# Altium integrated library Renesas Microcontroller H8S.IntLib: 670 symbols (part 29 of 70)
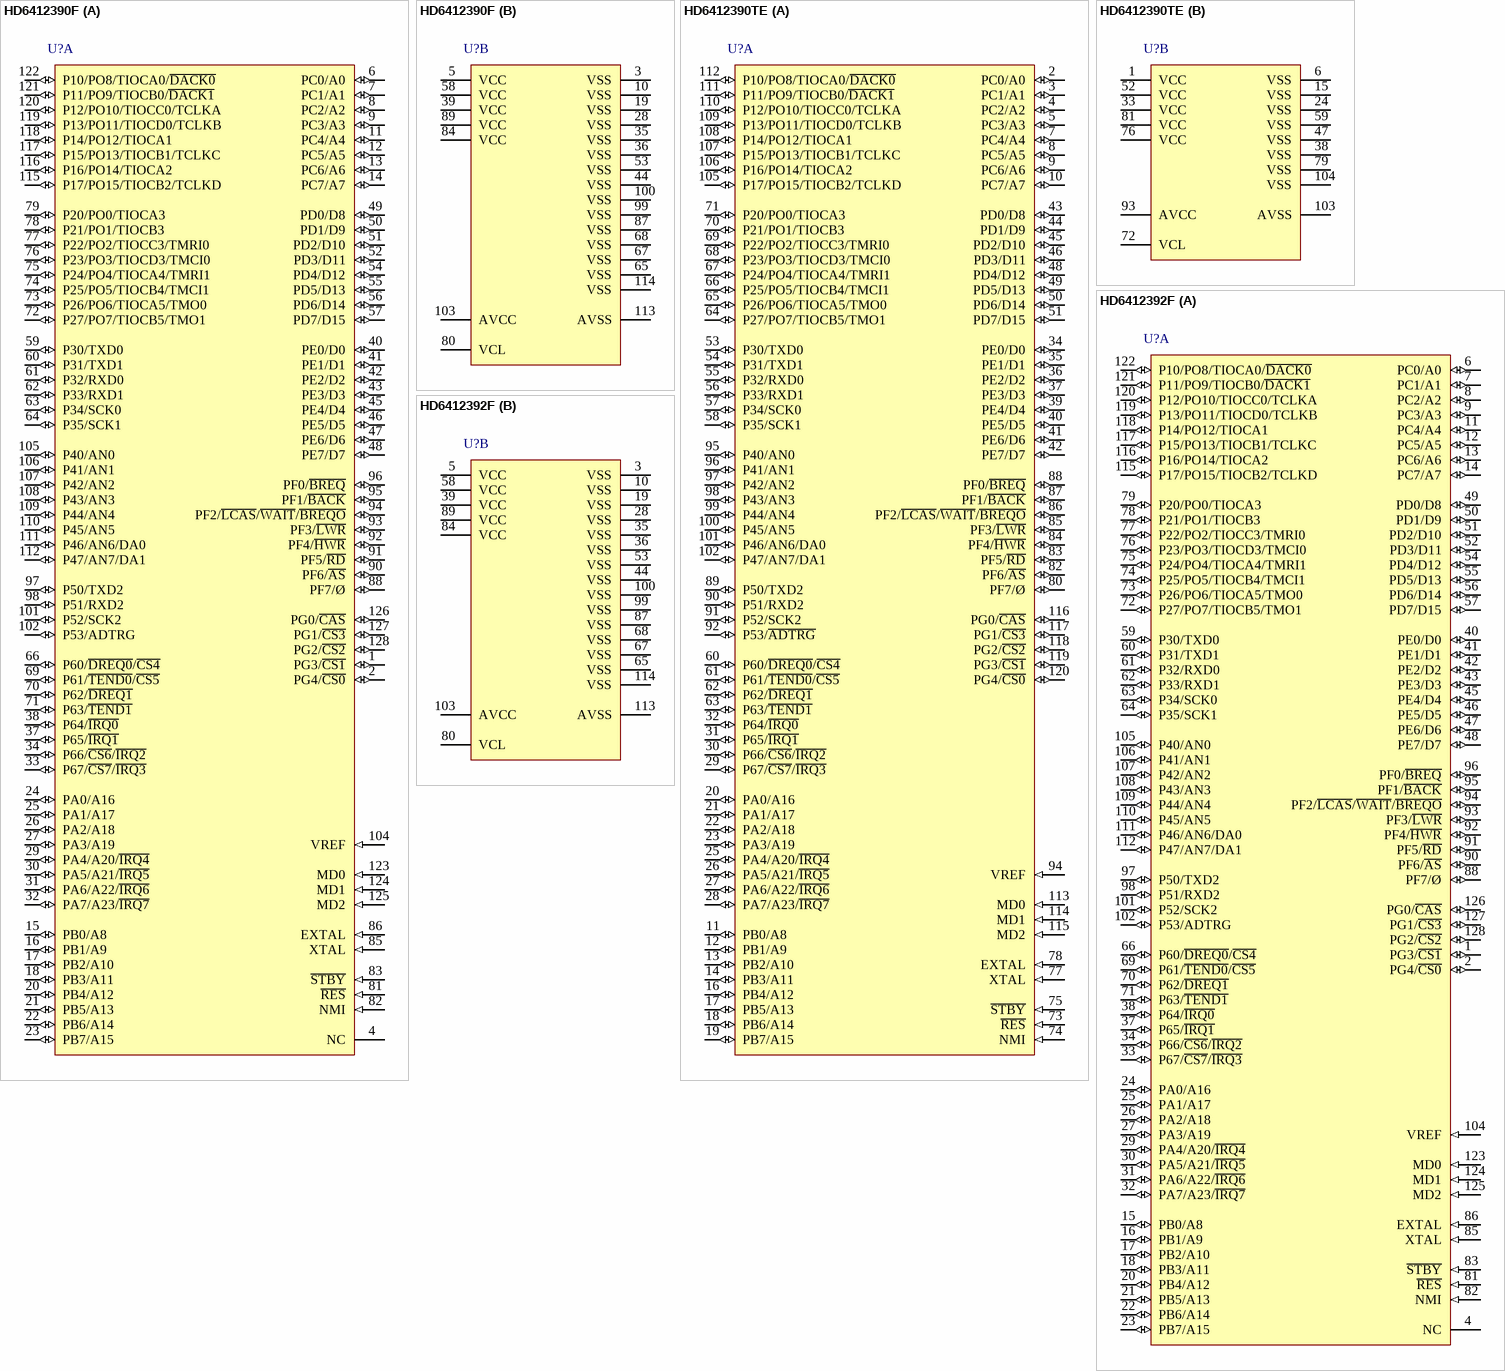
[diagram p259: symbols HD6412390F to HD6412392F]

## HD6412390F
designator U?
ROMless H8S/2300 Series, 2398 Group MCU, 4K RAM, FP-128B Pkg; Published: 28-Aug-2009; DatasheetVersion: Rev.6.00, Oct-2004; PackageVersion: Sep-2005; PackageReference: PRQP0128KB-A; Publisher: Altium Limited; PackageDescription: 128-Pin Plastic Quad Flat Pack, 20 x 14 x 2.7 mm Body, 0.5 mm Pitch; Code_JEITA: P-QFP128-14x20-0.50; Code_IPC: SQFP50P1600X2200-128; ComponentLink1Description: Manufacturer Link; ComponentLink1URL: http://sg.renesas.com/fmwk.jsp?cnt=h8s_family_landing.jsp&fp=/products/mpumcu/h8s_family/; ComponentLink2Description: Datasheet; ComponentLink2URL: http://documentation.renesas.com/eng/products/mpumcu/rej09b0138_h8s2357.pdf; ComponentLink3Description: Packaging Specification; ComponentLink3URL: http://sg.renesas.com/media/products/common_info/package/pdf/ic/code/prqp0128kb_a.pdf
footprint PRQP0128KB-A_N (Shrink QFP, 128-Leads, Body 20x14 mm, Pitch 0.5mm, IPC Medium Density)
footprint PRQP0128KB-A_L (Shrink QFP, 128-Leads, Body 20x14 mm, Pitch 0.5mm, IPC High Density)
footprint PRQP0128KB-A_M (Shrink QFP, 128-Leads, Body 20x14 mm, Pitch 0.5mm, IPC Low Density)
part A pins: 1 PG3/~{CS1} (io), 2 PG4/~{CS0} (io), 4 NC, 6 PC0/A0 (io), 7 PC1/A1 (io), 8 PC2/A2 (io), 9 PC3/A3 (io), 11 PC4/A4 (io), 12 PC5/A5 (io), 13 PC6/A6 (io), 14 PC7/A7 (io), 15 PB0/A8 (io), 16 PB1/A9 (io), 17 PB2/A10 (io), 18 PB3/A11 (io), 20 PB4/A12 (io), 21 PB5/A13 (io), 22 PB6/A14 (io), 23 PB7/A15 (io), 24 PA0/A16 (io), 25 PA1/A17 (io), 26 PA2/A18 (io), 27 PA3/A19 (io), 29 PA4/A20/~{IRQ4} (io), 30 PA5/A21/~{IRQ5} (io), 31 PA6/A22/~{IRQ6} (io), 32 PA7/A23/~{IRQ7} (io), 33 P67/~{CS7}/~{IRQ3} (io), 34 P66/~{CS6}/~{IRQ2} (io), 37 P65/~{IRQ1} (io), 38 P64/~{IRQ0} (io), 40 PE0/D0 (io), 41 PE1/D1 (io), 42 PE2/D2 (io), 43 PE3/D3 (io), 45 PE4/D4 (io), 46 PE5/D5 (io), 47 PE6/D6 (io), 48 PE7/D7 (io), 49 PD0/D8 (io), 50 PD1/D9 (io), 51 PD2/D10 (io), 52 PD3/D11 (io), 54 PD4/D12 (io), 55 PD5/D13 (io), 56 PD6/D14 (io), 57 PD7/D15 (io), 59 P30/TXD0 (io), 60 P31/TXD1 (io), 61 P32/RXD0 (io), 62 P33/RXD1 (io), 63 P34/SCK0 (io), 64 P35/SCK1 (io), 66 P60/~{DREQ0}/~{CS4} (io), 69 P61/~{TEND0}/~{CS5} (io), 70 P62/~{DREQ1} (io), 71 P63/~{TEND1} (io), 72 P27/PO7/TIOCB5/TMO1 (io), 73 P26/PO6/TIOCA5/TMO0 (io), 74 P25/PO5/TIOCB4/TMCI1 (io), 75 P24/PO4/TIOCA4/TMRI1 (io), 76 P23/PO3/TIOCD3/TMCI0 (io), 77 P22/PO2/TIOCC3/TMRI0 (io), 78 P21/PO1/TIOCB3 (io), 79 P20/PO0/TIOCA3 (io), 81 ~{RES} (in), 82 NMI (in), 83 ~{STBY} (in), 85 XTAL (in), 86 EXTAL (in), 88 PF7/Ø (io), 90 PF6/~{AS} (io), 91 PF5/~{RD} (io), 92 PF4/~{HWR} (io), 93 PF3/~{LWR} (io), 94 PF2/~{LCAS}/~{WAIT}/~{BREQO} (io), 95 PF1/~{BACK} (io), 96 PF0/~{BREQ} (io), 97 P50/TXD2 (io), 98 P51/RXD2 (io), 101 P52/SCK2 (io), 102 P53/ADTRG (io), 104 VREF (in), 105 P40/AN0 (io), 106 P41/AN1 (io), 107 P42/AN2 (io), 108 P43/AN3 (io), 109 P44/AN4 (io), 110 P45/AN5 (io), 111 P46/AN6/DA0 (io), 112 P47/AN7/DA1 (io), 115 P17/PO15/TIOCB2/TCLKD (io), 116 P16/PO14/TIOCA2 (io), 117 P15/PO13/TIOCB1/TCLKC (io), 118 P14/PO12/TIOCA1 (io), 119 P13/PO11/TIOCD0/TCLKB (io), 120 P12/PO10/TIOCC0/TCLKA (io), 121 P11/PO9/TIOCB0/~{DACK1} (io), 122 P10/PO8/TIOCA0/~{DACK0} (io), 123 MD0 (in), 124 MD1 (in), 125 MD2 (in), 126 PG0/~{CAS} (io), 127 PG1/~{CS3} (io), 128 PG2/~{CS2} (io)
part B pins: 3 VSS (power), 5 VCC (power), 10 VSS (power), 19 VSS (power), 28 VSS (power), 35 VSS (power), 36 VSS (power), 39 VCC (power), 44 VSS (power), 53 VSS (power), 58 VCC (power), 65 VSS (power), 67 VSS (power), 68 VSS (power), 80 VCL, 84 VCC (power), 87 VSS (power), 89 VCC (power), 99 VSS (power), 100 VSS (power), 103 AVCC (power), 113 AVSS (power), 114 VSS (power)

## HD6412390TE
designator U?
ROMless H8S/2300 Series, 2398 Group MCU, 4K RAM, TFP-120 Pkg; Published: 28-Aug-2009; DatasheetVersion: Rev.6.00, Oct-2004; PackageVersion: Sep-2005; PackageReference: PTQP0120LA-A; Publisher: Altium Limited; PackageDescription: 120-Pin Plastic Thin QFP, 14 x 14 x 1.0 mm Body, 0.4 mm Pitch; Code_JEITA: P-TQFP120-14x14-0.40; ComponentLink1Description: Manufacturer Link; ComponentLink1URL: http://sg.renesas.com/fmwk.jsp?cnt=h8s_family_landing.jsp&fp=/products/mpumcu/h8s_family/; ComponentLink2Description: Datasheet; ComponentLink2URL: http://documentation.renesas.com/eng/products/mpumcu/rej09b0138_h8s2357.pdf; ComponentLink3Description: Packaging Specification; ComponentLink3URL: http://sg.renesas.com/media/products/common_info/package/pdf/ic/code/ptqp0120la_a.pdf
footprint PTQP0120LA-A_N (Thin QFP, 120-Leads, Body 14x14mm, Pitch 0.4mm, IPC Medium Density)
footprint PTQP0120LA-A_L (Thin QFP, 120-Leads, Body 14x14mm, Pitch 0.4mm, IPC High Density)
footprint PTQP0120LA-A_M (Thin QFP, 120-Leads, Body 14x14mm, Pitch 0.4mm, IPC Low Density)
part A pins: 2 PC0/A0 (io), 3 PC1/A1 (io), 4 PC2/A2 (io), 5 PC3/A3 (io), 7 PC4/A4 (io), 8 PC5/A5 (io), 9 PC6/A6 (io), 10 PC7/A7 (io), 11 PB0/A8 (io), 12 PB1/A9 (io), 13 PB2/A10 (io), 14 PB3/A11 (io), 16 PB4/A12 (io), 17 PB5/A13 (io), 18 PB6/A14 (io), 19 PB7/A15 (io), 20 PA0/A16 (io), 21 PA1/A17 (io), 22 PA2/A18 (io), 23 PA3/A19 (io), 25 PA4/A20/~{IRQ4} (io), 26 PA5/A21/~{IRQ5} (io), 27 PA6/A22/~{IRQ6} (io), 28 PA7/A23/~{IRQ7} (io), 29 P67/~{CS7}/~{IRQ3} (io), 30 P66/~{CS6}/~{IRQ2} (io), 31 P65/~{IRQ1} (io), 32 P64/~{IRQ0} (io), 34 PE0/D0 (io), 35 PE1/D1 (io), 36 PE2/D2 (io), 37 PE3/D3 (io), 39 PE4/D4 (io), 40 PE5/D5 (io), 41 PE6/D6 (io), 42 PE7/D7 (io), 43 PD0/D8 (io), 44 PD1/D9 (io), 45 PD2/D10 (io), 46 PD3/D11 (io), 48 PD4/D12 (io), 49 PD5/D13 (io), 50 PD6/D14 (io), 51 PD7/D15 (io), 53 P30/TXD0 (io), 54 P31/TXD1 (io), 55 P32/RXD0 (io), 56 P33/RXD1 (io), 57 P34/SCK0 (io), 58 P35/SCK1 (io), 60 P60/~{DREQ0}/~{CS4} (io), 61 P61/~{TEND0}/~{CS5} (io), 62 P62/~{DREQ1} (io), 63 P63/~{TEND1} (io), 64 P27/PO7/TIOCB5/TMO1 (io), 65 P26/PO6/TIOCA5/TMO0 (io), 66 P25/PO5/TIOCB4/TMCI1 (io), 67 P24/PO4/TIOCA4/TMRI1 (io), 68 P23/PO3/TIOCD3/TMCI0 (io), 69 P22/PO2/TIOCC3/TMRI0 (io), 70 P21/PO1/TIOCB3 (io), 71 P20/PO0/TIOCA3 (io), 73 ~{RES} (in), 74 NMI (in), 75 ~{STBY} (in), 77 XTAL (in), 78 EXTAL (in), 80 PF7/Ø (io), 82 PF6/~{AS} (io), 83 PF5/~{RD} (io), 84 PF4/~{HWR} (io), 85 PF3/~{LWR} (io), 86 PF2/~{LCAS}/~{WAIT}/~{BREQO} (io), 87 PF1/~{BACK} (io), 88 PF0/~{BREQ} (io), 89 P50/TXD2 (io), 90 P51/RXD2 (io), 91 P52/SCK2 (io), 92 P53/~{ADTRG} (io), 94 VREF (in), 95 P40/AN0 (io), 96 P41/AN1 (io), 97 P42/AN2 (io), 98 P43/AN3 (io), 99 P44/AN4 (io), 100 P45/AN5 (io), 101 P46/AN6/DA0 (io), 102 P47/AN7/DA1 (io), 105 P17/PO15/TIOCB2/TCLKD (io), 106 P16/PO14/TIOCA2 (io), 107 P15/PO13/TIOCB1/TCLKC (io), 108 P14/PO12/TIOCA1 (io), 109 P13/PO11/TIOCD0/TCLKB (io), 110 P12/PO10/TIOCC0/TCLKA (io), 111 P11/PO9/TIOCB0/~{DACK1} (io), 112 P10/PO8/TIOCA0/~{DACK0} (io), 113 MD0 (in), 114 MD1 (in), 115 MD2 (in), 116 PG0/~{CAS} (io), 117 PG1/~{CS3} (io), 118 PG2/~{CS2} (io), 119 PG3/~{CS1} (io), 120 PG4/~{CS0} (io)
part B pins: 1 VCC (power), 6 VSS (power), 15 VSS (power), 24 VSS (power), 33 VCC (power), 38 VSS (power), 47 VSS (power), 52 VCC (power), 59 VSS (power), 72 VCL, 76 VCC (power), 79 VSS (power), 81 VCC (power), 93 AVCC (power), 103 AVSS (power), 104 VSS (power)

## HD6412392F
designator U?
ROMless H8S/2300 Series, 2398 Group MCU, 8K RAM, FP-128B Pkg; Published: 28-Aug-2009; DatasheetVersion: Rev.6.00, Oct-2004; PackageVersion: Sep-2005; PackageReference: PRQP0128KB-A; Publisher: Altium Limited; PackageDescription: 128-Pin Plastic Quad Flat Pack, 20 x 14 x 2.7 mm Body, 0.5 mm Pitch; Code_JEITA: P-QFP128-14x20-0.50; Code_IPC: SQFP50P1600X2200-128; ComponentLink1Description: Manufacturer Link; ComponentLink1URL: http://sg.renesas.com/fmwk.jsp?cnt=h8s_family_landing.jsp&fp=/products/mpumcu/h8s_family/; ComponentLink2Description: Datasheet; ComponentLink2URL: http://documentation.renesas.com/eng/products/mpumcu/rej09b0138_h8s2357.pdf; ComponentLink3Description: Packaging Specification; ComponentLink3URL: http://sg.renesas.com/media/products/common_info/package/pdf/ic/code/prqp0128kb_a.pdf
footprint PRQP0128KB-A_N (Shrink QFP, 128-Leads, Body 20x14 mm, Pitch 0.5mm, IPC Medium Density)
footprint PRQP0128KB-A_L (Shrink QFP, 128-Leads, Body 20x14 mm, Pitch 0.5mm, IPC High Density)
footprint PRQP0128KB-A_M (Shrink QFP, 128-Leads, Body 20x14 mm, Pitch 0.5mm, IPC Low Density)
part A pins: 1 PG3/~{CS1} (io), 2 PG4/~{CS0} (io), 4 NC, 6 PC0/A0 (io), 7 PC1/A1 (io), 8 PC2/A2 (io), 9 PC3/A3 (io), 11 PC4/A4 (io), 12 PC5/A5 (io), 13 PC6/A6 (io), 14 PC7/A7 (io), 15 PB0/A8 (io), 16 PB1/A9 (io), 17 PB2/A10 (io), 18 PB3/A11 (io), 20 PB4/A12 (io), 21 PB5/A13 (io), 22 PB6/A14 (io), 23 PB7/A15 (io), 24 PA0/A16 (io), 25 PA1/A17 (io), 26 PA2/A18 (io), 27 PA3/A19 (io), 29 PA4/A20/~{IRQ4} (io), 30 PA5/A21/~{IRQ5} (io), 31 PA6/A22/~{IRQ6} (io), 32 PA7/A23/~{IRQ7} (io), 33 P67/~{CS7}/~{IRQ3} (io), 34 P66/~{CS6}/~{IRQ2} (io), 37 P65/~{IRQ1} (io), 38 P64/~{IRQ0} (io), 40 PE0/D0 (io), 41 PE1/D1 (io), 42 PE2/D2 (io), 43 PE3/D3 (io), 45 PE4/D4 (io), 46 PE5/D5 (io), 47 PE6/D6 (io), 48 PE7/D7 (io), 49 PD0/D8 (io), 50 PD1/D9 (io), 51 PD2/D10 (io), 52 PD3/D11 (io), 54 PD4/D12 (io), 55 PD5/D13 (io), 56 PD6/D14 (io), 57 PD7/D15 (io), 59 P30/TXD0 (io), 60 P31/TXD1 (io), 61 P32/RXD0 (io), 62 P33/RXD1 (io), 63 P34/SCK0 (io), 64 P35/SCK1 (io), 66 P60/~{DREQ0}/~{CS4} (io), 69 P61/~{TEND0}/~{CS5} (io), 70 P62/~{DREQ1} (io), 71 P63/~{TEND1} (io), 72 P27/PO7/TIOCB5/TMO1 (io), 73 P26/PO6/TIOCA5/TMO0 (io), 74 P25/PO5/TIOCB4/TMCI1 (io), 75 P24/PO4/TIOCA4/TMRI1 (io), 76 P23/PO3/TIOCD3/TMCI0 (io), 77 P22/PO2/TIOCC3/TMRI0 (io), 78 P21/PO1/TIOCB3 (io), 79 P20/PO0/TIOCA3 (io), 81 ~{RES} (in), 82 NMI (in), 83 ~{STBY} (in), 85 XTAL (in), 86 EXTAL (in), 88 PF7/Ø (io), 90 PF6/~{AS} (io), 91 PF5/~{RD} (io), 92 PF4/~{HWR} (io), 93 PF3/~{LWR} (io), 94 PF2/~{LCAS}/~{WAIT}/~{BREQO} (io), 95 PF1/~{BACK} (io), 96 PF0/~{BREQ} (io), 97 P50/TXD2 (io), 98 P51/RXD2 (io), 101 P52/SCK2 (io), 102 P53/ADTRG (io), 104 VREF (in), 105 P40/AN0 (io), 106 P41/AN1 (io), 107 P42/AN2 (io), 108 P43/AN3 (io), 109 P44/AN4 (io), 110 P45/AN5 (io), 111 P46/AN6/DA0 (io), 112 P47/AN7/DA1 (io), 115 P17/PO15/TIOCB2/TCLKD (io), 116 P16/PO14/TIOCA2 (io), 117 P15/PO13/TIOCB1/TCLKC (io), 118 P14/PO12/TIOCA1 (io), 119 P13/PO11/TIOCD0/TCLKB (io), 120 P12/PO10/TIOCC0/TCLKA (io), 121 P11/PO9/TIOCB0/~{DACK1} (io), 122 P10/PO8/TIOCA0/~{DACK0} (io), 123 MD0 (in), 124 MD1 (in), 125 MD2 (in), 126 PG0/~{CAS} (io), 127 PG1/~{CS3} (io), 128 PG2/~{CS2} (io)
part B pins: 3 VSS (power), 5 VCC (power), 10 VSS (power), 19 VSS (power), 28 VSS (power), 35 VSS (power), 36 VSS (power), 39 VCC (power), 44 VSS (power), 53 VSS (power), 58 VCC (power), 65 VSS (power), 67 VSS (power), 68 VSS (power), 80 VCL, 84 VCC (power), 87 VSS (power), 89 VCC (power), 99 VSS (power), 100 VSS (power), 103 AVCC (power), 113 AVSS (power), 114 VSS (power)

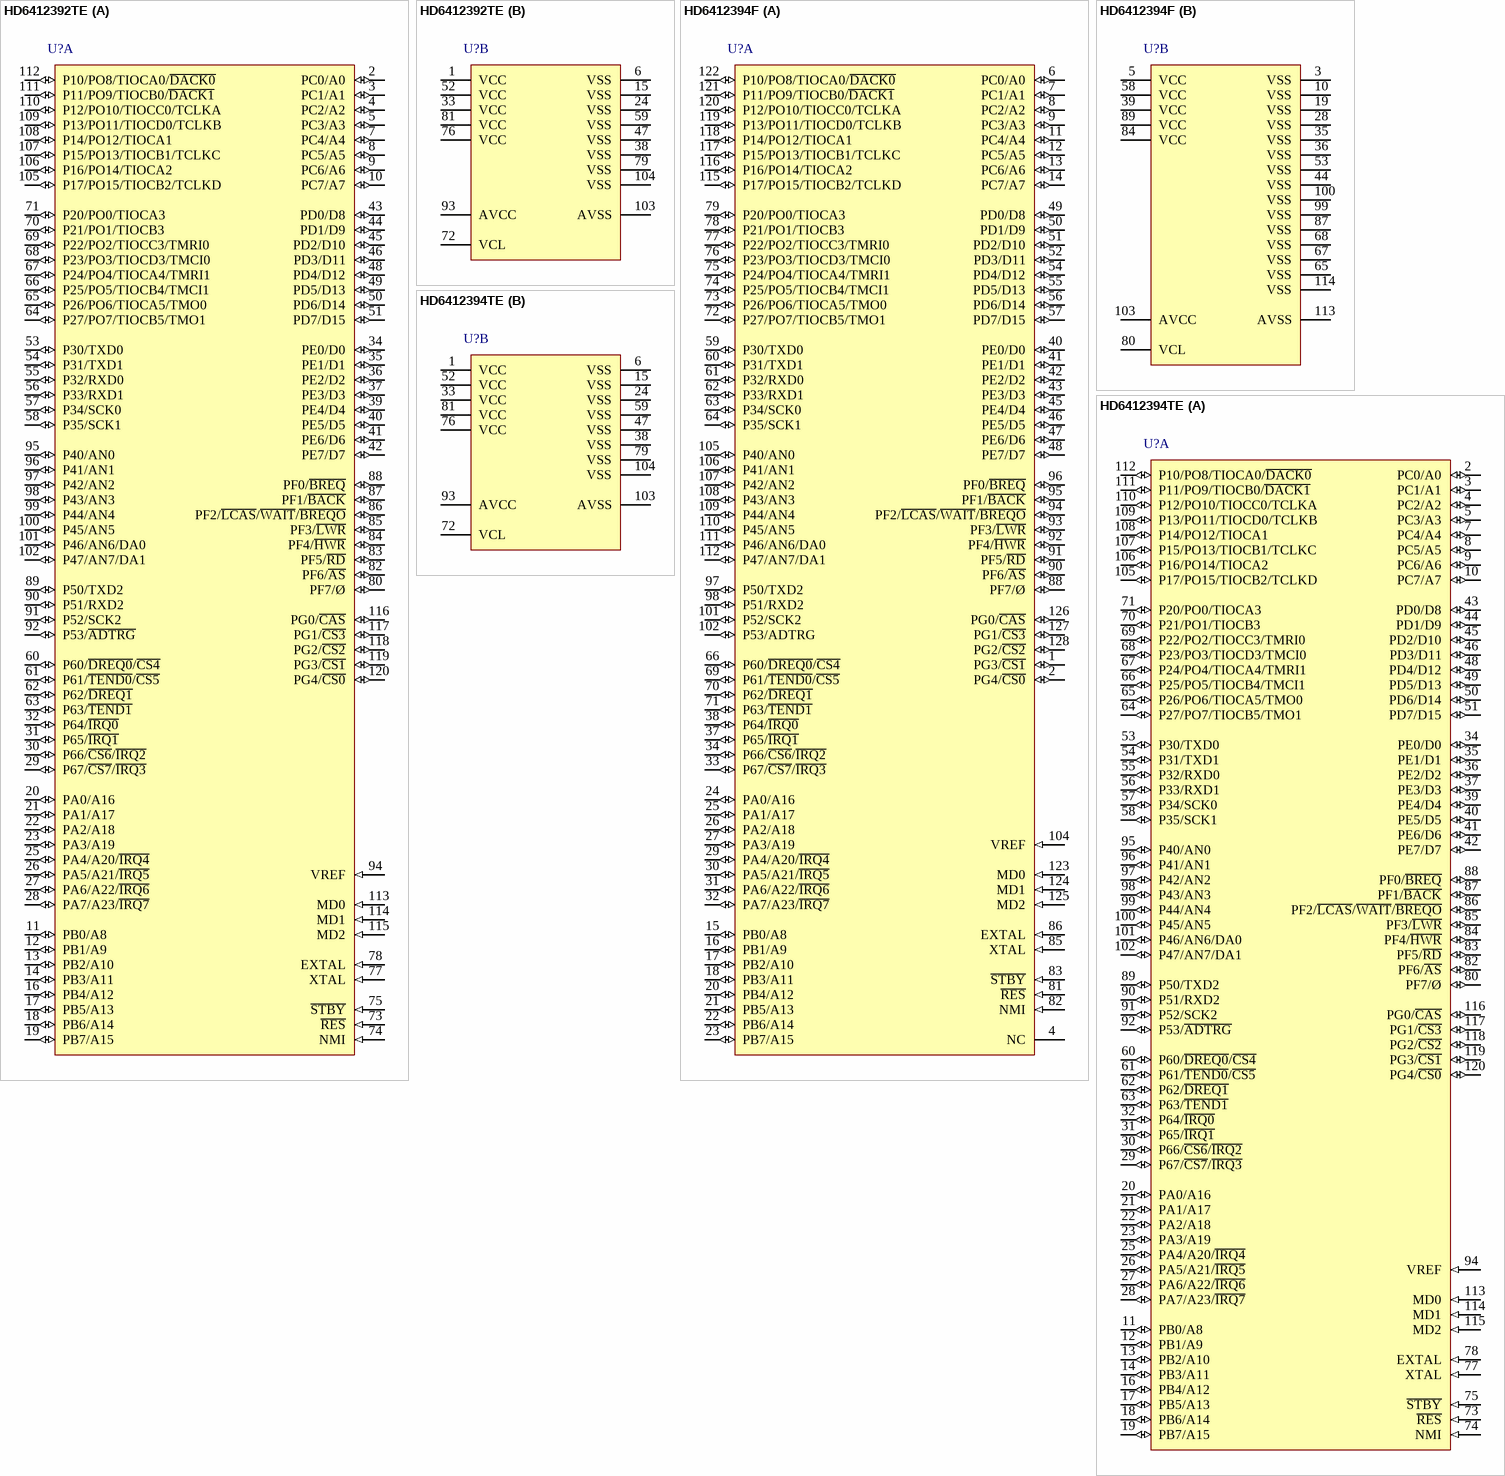
[diagram p100: symbols HD6412392TE to HD6412394TE]

## HD6412392TE
designator U?
ROMless H8S/2300 Series, 2398 Group MCU, 8K RAM, TFP-120 Pkg; Published: 28-Aug-2009; DatasheetVersion: Rev.6.00, Oct-2004; PackageVersion: Sep-2005; PackageReference: PTQP0120LA-A; Publisher: Altium Limited; PackageDescription: 120-Pin Plastic Thin QFP, 14 x 14 x 1.0 mm Body, 0.4 mm Pitch; Code_JEITA: P-TQFP120-14x14-0.40; ComponentLink1Description: Manufacturer Link; ComponentLink1URL: http://sg.renesas.com/fmwk.jsp?cnt=h8s_family_landing.jsp&fp=/products/mpumcu/h8s_family/; ComponentLink2Description: Datasheet; ComponentLink2URL: http://documentation.renesas.com/eng/products/mpumcu/rej09b0138_h8s2357.pdf; ComponentLink3Description: Packaging Specification; ComponentLink3URL: http://sg.renesas.com/media/products/common_info/package/pdf/ic/code/ptqp0120la_a.pdf
footprint PTQP0120LA-A_N (Thin QFP, 120-Leads, Body 14x14mm, Pitch 0.4mm, IPC Medium Density)
footprint PTQP0120LA-A_L (Thin QFP, 120-Leads, Body 14x14mm, Pitch 0.4mm, IPC High Density)
footprint PTQP0120LA-A_M (Thin QFP, 120-Leads, Body 14x14mm, Pitch 0.4mm, IPC Low Density)
part A pins: 2 PC0/A0 (io), 3 PC1/A1 (io), 4 PC2/A2 (io), 5 PC3/A3 (io), 7 PC4/A4 (io), 8 PC5/A5 (io), 9 PC6/A6 (io), 10 PC7/A7 (io), 11 PB0/A8 (io), 12 PB1/A9 (io), 13 PB2/A10 (io), 14 PB3/A11 (io), 16 PB4/A12 (io), 17 PB5/A13 (io), 18 PB6/A14 (io), 19 PB7/A15 (io), 20 PA0/A16 (io), 21 PA1/A17 (io), 22 PA2/A18 (io), 23 PA3/A19 (io), 25 PA4/A20/~{IRQ4} (io), 26 PA5/A21/~{IRQ5} (io), 27 PA6/A22/~{IRQ6} (io), 28 PA7/A23/~{IRQ7} (io), 29 P67/~{CS7}/~{IRQ3} (io), 30 P66/~{CS6}/~{IRQ2} (io), 31 P65/~{IRQ1} (io), 32 P64/~{IRQ0} (io), 34 PE0/D0 (io), 35 PE1/D1 (io), 36 PE2/D2 (io), 37 PE3/D3 (io), 39 PE4/D4 (io), 40 PE5/D5 (io), 41 PE6/D6 (io), 42 PE7/D7 (io), 43 PD0/D8 (io), 44 PD1/D9 (io), 45 PD2/D10 (io), 46 PD3/D11 (io), 48 PD4/D12 (io), 49 PD5/D13 (io), 50 PD6/D14 (io), 51 PD7/D15 (io), 53 P30/TXD0 (io), 54 P31/TXD1 (io), 55 P32/RXD0 (io), 56 P33/RXD1 (io), 57 P34/SCK0 (io), 58 P35/SCK1 (io), 60 P60/~{DREQ0}/~{CS4} (io), 61 P61/~{TEND0}/~{CS5} (io), 62 P62/~{DREQ1} (io), 63 P63/~{TEND1} (io), 64 P27/PO7/TIOCB5/TMO1 (io), 65 P26/PO6/TIOCA5/TMO0 (io), 66 P25/PO5/TIOCB4/TMCI1 (io), 67 P24/PO4/TIOCA4/TMRI1 (io), 68 P23/PO3/TIOCD3/TMCI0 (io), 69 P22/PO2/TIOCC3/TMRI0 (io), 70 P21/PO1/TIOCB3 (io), 71 P20/PO0/TIOCA3 (io), 73 ~{RES} (in), 74 NMI (in), 75 ~{STBY} (in), 77 XTAL (in), 78 EXTAL (in), 80 PF7/Ø (io), 82 PF6/~{AS} (io), 83 PF5/~{RD} (io), 84 PF4/~{HWR} (io), 85 PF3/~{LWR} (io), 86 PF2/~{LCAS}/~{WAIT}/~{BREQO} (io), 87 PF1/~{BACK} (io), 88 PF0/~{BREQ} (io), 89 P50/TXD2 (io), 90 P51/RXD2 (io), 91 P52/SCK2 (io), 92 P53/~{ADTRG} (io), 94 VREF (in), 95 P40/AN0 (io), 96 P41/AN1 (io), 97 P42/AN2 (io), 98 P43/AN3 (io), 99 P44/AN4 (io), 100 P45/AN5 (io), 101 P46/AN6/DA0 (io), 102 P47/AN7/DA1 (io), 105 P17/PO15/TIOCB2/TCLKD (io), 106 P16/PO14/TIOCA2 (io), 107 P15/PO13/TIOCB1/TCLKC (io), 108 P14/PO12/TIOCA1 (io), 109 P13/PO11/TIOCD0/TCLKB (io), 110 P12/PO10/TIOCC0/TCLKA (io), 111 P11/PO9/TIOCB0/~{DACK1} (io), 112 P10/PO8/TIOCA0/~{DACK0} (io), 113 MD0 (in), 114 MD1 (in), 115 MD2 (in), 116 PG0/~{CAS} (io), 117 PG1/~{CS3} (io), 118 PG2/~{CS2} (io), 119 PG3/~{CS1} (io), 120 PG4/~{CS0} (io)
part B pins: 1 VCC (power), 6 VSS (power), 15 VSS (power), 24 VSS (power), 33 VCC (power), 38 VSS (power), 47 VSS (power), 52 VCC (power), 59 VSS (power), 72 VCL, 76 VCC (power), 79 VSS (power), 81 VCC (power), 93 AVCC (power), 103 AVSS (power), 104 VSS (power)

## HD6412394F
designator U?
ROMless H8S/2300 Series, 2398 Group MCU, 32K RAM, FP-128B Pkg; Published: 28-Aug-2009; DatasheetVersion: Rev.6.00, Oct-2004; PackageVersion: Sep-2005; PackageReference: PRQP0128KB-A; Publisher: Altium Limited; PackageDescription: 128-Pin Plastic Quad Flat Pack, 20 x 14 x 2.7 mm Body, 0.5 mm Pitch; Code_JEITA: P-QFP128-14x20-0.50; Code_IPC: SQFP50P1600X2200-128; ComponentLink1Description: Manufacturer Link; ComponentLink1URL: http://sg.renesas.com/fmwk.jsp?cnt=h8s_family_landing.jsp&fp=/products/mpumcu/h8s_family/; ComponentLink2Description: Datasheet; ComponentLink2URL: http://documentation.renesas.com/eng/products/mpumcu/rej09b0138_h8s2357.pdf; ComponentLink3Description: Packaging Specification; ComponentLink3URL: http://sg.renesas.com/media/products/common_info/package/pdf/ic/code/prqp0128kb_a.pdf
footprint PRQP0128KB-A_N (Shrink QFP, 128-Leads, Body 20x14 mm, Pitch 0.5mm, IPC Medium Density)
footprint PRQP0128KB-A_L (Shrink QFP, 128-Leads, Body 20x14 mm, Pitch 0.5mm, IPC High Density)
footprint PRQP0128KB-A_M (Shrink QFP, 128-Leads, Body 20x14 mm, Pitch 0.5mm, IPC Low Density)
part A pins: 1 PG3/~{CS1} (io), 2 PG4/~{CS0} (io), 4 NC, 6 PC0/A0 (io), 7 PC1/A1 (io), 8 PC2/A2 (io), 9 PC3/A3 (io), 11 PC4/A4 (io), 12 PC5/A5 (io), 13 PC6/A6 (io), 14 PC7/A7 (io), 15 PB0/A8 (io), 16 PB1/A9 (io), 17 PB2/A10 (io), 18 PB3/A11 (io), 20 PB4/A12 (io), 21 PB5/A13 (io), 22 PB6/A14 (io), 23 PB7/A15 (io), 24 PA0/A16 (io), 25 PA1/A17 (io), 26 PA2/A18 (io), 27 PA3/A19 (io), 29 PA4/A20/~{IRQ4} (io), 30 PA5/A21/~{IRQ5} (io), 31 PA6/A22/~{IRQ6} (io), 32 PA7/A23/~{IRQ7} (io), 33 P67/~{CS7}/~{IRQ3} (io), 34 P66/~{CS6}/~{IRQ2} (io), 37 P65/~{IRQ1} (io), 38 P64/~{IRQ0} (io), 40 PE0/D0 (io), 41 PE1/D1 (io), 42 PE2/D2 (io), 43 PE3/D3 (io), 45 PE4/D4 (io), 46 PE5/D5 (io), 47 PE6/D6 (io), 48 PE7/D7 (io), 49 PD0/D8 (io), 50 PD1/D9 (io), 51 PD2/D10 (io), 52 PD3/D11 (io), 54 PD4/D12 (io), 55 PD5/D13 (io), 56 PD6/D14 (io), 57 PD7/D15 (io), 59 P30/TXD0 (io), 60 P31/TXD1 (io), 61 P32/RXD0 (io), 62 P33/RXD1 (io), 63 P34/SCK0 (io), 64 P35/SCK1 (io), 66 P60/~{DREQ0}/~{CS4} (io), 69 P61/~{TEND0}/~{CS5} (io), 70 P62/~{DREQ1} (io), 71 P63/~{TEND1} (io), 72 P27/PO7/TIOCB5/TMO1 (io), 73 P26/PO6/TIOCA5/TMO0 (io), 74 P25/PO5/TIOCB4/TMCI1 (io), 75 P24/PO4/TIOCA4/TMRI1 (io), 76 P23/PO3/TIOCD3/TMCI0 (io), 77 P22/PO2/TIOCC3/TMRI0 (io), 78 P21/PO1/TIOCB3 (io), 79 P20/PO0/TIOCA3 (io), 81 ~{RES} (in), 82 NMI (in), 83 ~{STBY} (in), 85 XTAL (in), 86 EXTAL (in), 88 PF7/Ø (io), 90 PF6/~{AS} (io), 91 PF5/~{RD} (io), 92 PF4/~{HWR} (io), 93 PF3/~{LWR} (io), 94 PF2/~{LCAS}/~{WAIT}/~{BREQO} (io), 95 PF1/~{BACK} (io), 96 PF0/~{BREQ} (io), 97 P50/TXD2 (io), 98 P51/RXD2 (io), 101 P52/SCK2 (io), 102 P53/ADTRG (io), 104 VREF (in), 105 P40/AN0 (io), 106 P41/AN1 (io), 107 P42/AN2 (io), 108 P43/AN3 (io), 109 P44/AN4 (io), 110 P45/AN5 (io), 111 P46/AN6/DA0 (io), 112 P47/AN7/DA1 (io), 115 P17/PO15/TIOCB2/TCLKD (io), 116 P16/PO14/TIOCA2 (io), 117 P15/PO13/TIOCB1/TCLKC (io), 118 P14/PO12/TIOCA1 (io), 119 P13/PO11/TIOCD0/TCLKB (io), 120 P12/PO10/TIOCC0/TCLKA (io), 121 P11/PO9/TIOCB0/~{DACK1} (io), 122 P10/PO8/TIOCA0/~{DACK0} (io), 123 MD0 (in), 124 MD1 (in), 125 MD2 (in), 126 PG0/~{CAS} (io), 127 PG1/~{CS3} (io), 128 PG2/~{CS2} (io)
part B pins: 3 VSS (power), 5 VCC (power), 10 VSS (power), 19 VSS (power), 28 VSS (power), 35 VSS (power), 36 VSS (power), 39 VCC (power), 44 VSS (power), 53 VSS (power), 58 VCC (power), 65 VSS (power), 67 VSS (power), 68 VSS (power), 80 VCL, 84 VCC (power), 87 VSS (power), 89 VCC (power), 99 VSS (power), 100 VSS (power), 103 AVCC (power), 113 AVSS (power), 114 VSS (power)

## HD6412394TE
designator U?
ROMless H8S/2300 Series, 2398 Group MCU, 32K RAM, TFP-120 Pkg; Published: 28-Aug-2009; DatasheetVersion: Rev.6.00, Oct-2004; PackageVersion: Sep-2005; PackageReference: PTQP0120LA-A; Publisher: Altium Limited; PackageDescription: 120-Pin Plastic Thin QFP, 14 x 14 x 1.0 mm Body, 0.4 mm Pitch; Code_JEITA: P-TQFP120-14x14-0.40; ComponentLink1Description: Manufacturer Link; ComponentLink1URL: http://sg.renesas.com/fmwk.jsp?cnt=h8s_family_landing.jsp&fp=/products/mpumcu/h8s_family/; ComponentLink2Description: Datasheet; ComponentLink2URL: http://documentation.renesas.com/eng/products/mpumcu/rej09b0138_h8s2357.pdf; ComponentLink3Description: Packaging Specification; ComponentLink3URL: http://sg.renesas.com/media/products/common_info/package/pdf/ic/code/ptqp0120la_a.pdf
footprint PTQP0120LA-A_N (Thin QFP, 120-Leads, Body 14x14mm, Pitch 0.4mm, IPC Medium Density)
footprint PTQP0120LA-A_L (Thin QFP, 120-Leads, Body 14x14mm, Pitch 0.4mm, IPC High Density)
footprint PTQP0120LA-A_M (Thin QFP, 120-Leads, Body 14x14mm, Pitch 0.4mm, IPC Low Density)
part A pins: 2 PC0/A0 (io), 3 PC1/A1 (io), 4 PC2/A2 (io), 5 PC3/A3 (io), 7 PC4/A4 (io), 8 PC5/A5 (io), 9 PC6/A6 (io), 10 PC7/A7 (io), 11 PB0/A8 (io), 12 PB1/A9 (io), 13 PB2/A10 (io), 14 PB3/A11 (io), 16 PB4/A12 (io), 17 PB5/A13 (io), 18 PB6/A14 (io), 19 PB7/A15 (io), 20 PA0/A16 (io), 21 PA1/A17 (io), 22 PA2/A18 (io), 23 PA3/A19 (io), 25 PA4/A20/~{IRQ4} (io), 26 PA5/A21/~{IRQ5} (io), 27 PA6/A22/~{IRQ6} (io), 28 PA7/A23/~{IRQ7} (io), 29 P67/~{CS7}/~{IRQ3} (io), 30 P66/~{CS6}/~{IRQ2} (io), 31 P65/~{IRQ1} (io), 32 P64/~{IRQ0} (io), 34 PE0/D0 (io), 35 PE1/D1 (io), 36 PE2/D2 (io), 37 PE3/D3 (io), 39 PE4/D4 (io), 40 PE5/D5 (io), 41 PE6/D6 (io), 42 PE7/D7 (io), 43 PD0/D8 (io), 44 PD1/D9 (io), 45 PD2/D10 (io), 46 PD3/D11 (io), 48 PD4/D12 (io), 49 PD5/D13 (io), 50 PD6/D14 (io), 51 PD7/D15 (io), 53 P30/TXD0 (io), 54 P31/TXD1 (io), 55 P32/RXD0 (io), 56 P33/RXD1 (io), 57 P34/SCK0 (io), 58 P35/SCK1 (io), 60 P60/~{DREQ0}/~{CS4} (io), 61 P61/~{TEND0}/~{CS5} (io), 62 P62/~{DREQ1} (io), 63 P63/~{TEND1} (io), 64 P27/PO7/TIOCB5/TMO1 (io), 65 P26/PO6/TIOCA5/TMO0 (io), 66 P25/PO5/TIOCB4/TMCI1 (io), 67 P24/PO4/TIOCA4/TMRI1 (io), 68 P23/PO3/TIOCD3/TMCI0 (io), 69 P22/PO2/TIOCC3/TMRI0 (io), 70 P21/PO1/TIOCB3 (io), 71 P20/PO0/TIOCA3 (io), 73 ~{RES} (in), 74 NMI (in), 75 ~{STBY} (in), 77 XTAL (in), 78 EXTAL (in), 80 PF7/Ø (io), 82 PF6/~{AS} (io), 83 PF5/~{RD} (io), 84 PF4/~{HWR} (io), 85 PF3/~{LWR} (io), 86 PF2/~{LCAS}/~{WAIT}/~{BREQO} (io), 87 PF1/~{BACK} (io), 88 PF0/~{BREQ} (io), 89 P50/TXD2 (io), 90 P51/RXD2 (io), 91 P52/SCK2 (io), 92 P53/~{ADTRG} (io), 94 VREF (in), 95 P40/AN0 (io), 96 P41/AN1 (io), 97 P42/AN2 (io), 98 P43/AN3 (io), 99 P44/AN4 (io), 100 P45/AN5 (io), 101 P46/AN6/DA0 (io), 102 P47/AN7/DA1 (io), 105 P17/PO15/TIOCB2/TCLKD (io), 106 P16/PO14/TIOCA2 (io), 107 P15/PO13/TIOCB1/TCLKC (io), 108 P14/PO12/TIOCA1 (io), 109 P13/PO11/TIOCD0/TCLKB (io), 110 P12/PO10/TIOCC0/TCLKA (io), 111 P11/PO9/TIOCB0/~{DACK1} (io), 112 P10/PO8/TIOCA0/~{DACK0} (io), 113 MD0 (in), 114 MD1 (in), 115 MD2 (in), 116 PG0/~{CAS} (io), 117 PG1/~{CS3} (io), 118 PG2/~{CS2} (io), 119 PG3/~{CS1} (io), 120 PG4/~{CS0} (io)
part B pins: 1 VCC (power), 6 VSS (power), 15 VSS (power), 24 VSS (power), 33 VCC (power), 38 VSS (power), 47 VSS (power), 52 VCC (power), 59 VSS (power), 72 VCL, 76 VCC (power), 79 VSS (power), 81 VCC (power), 93 AVCC (power), 103 AVSS (power), 104 VSS (power)

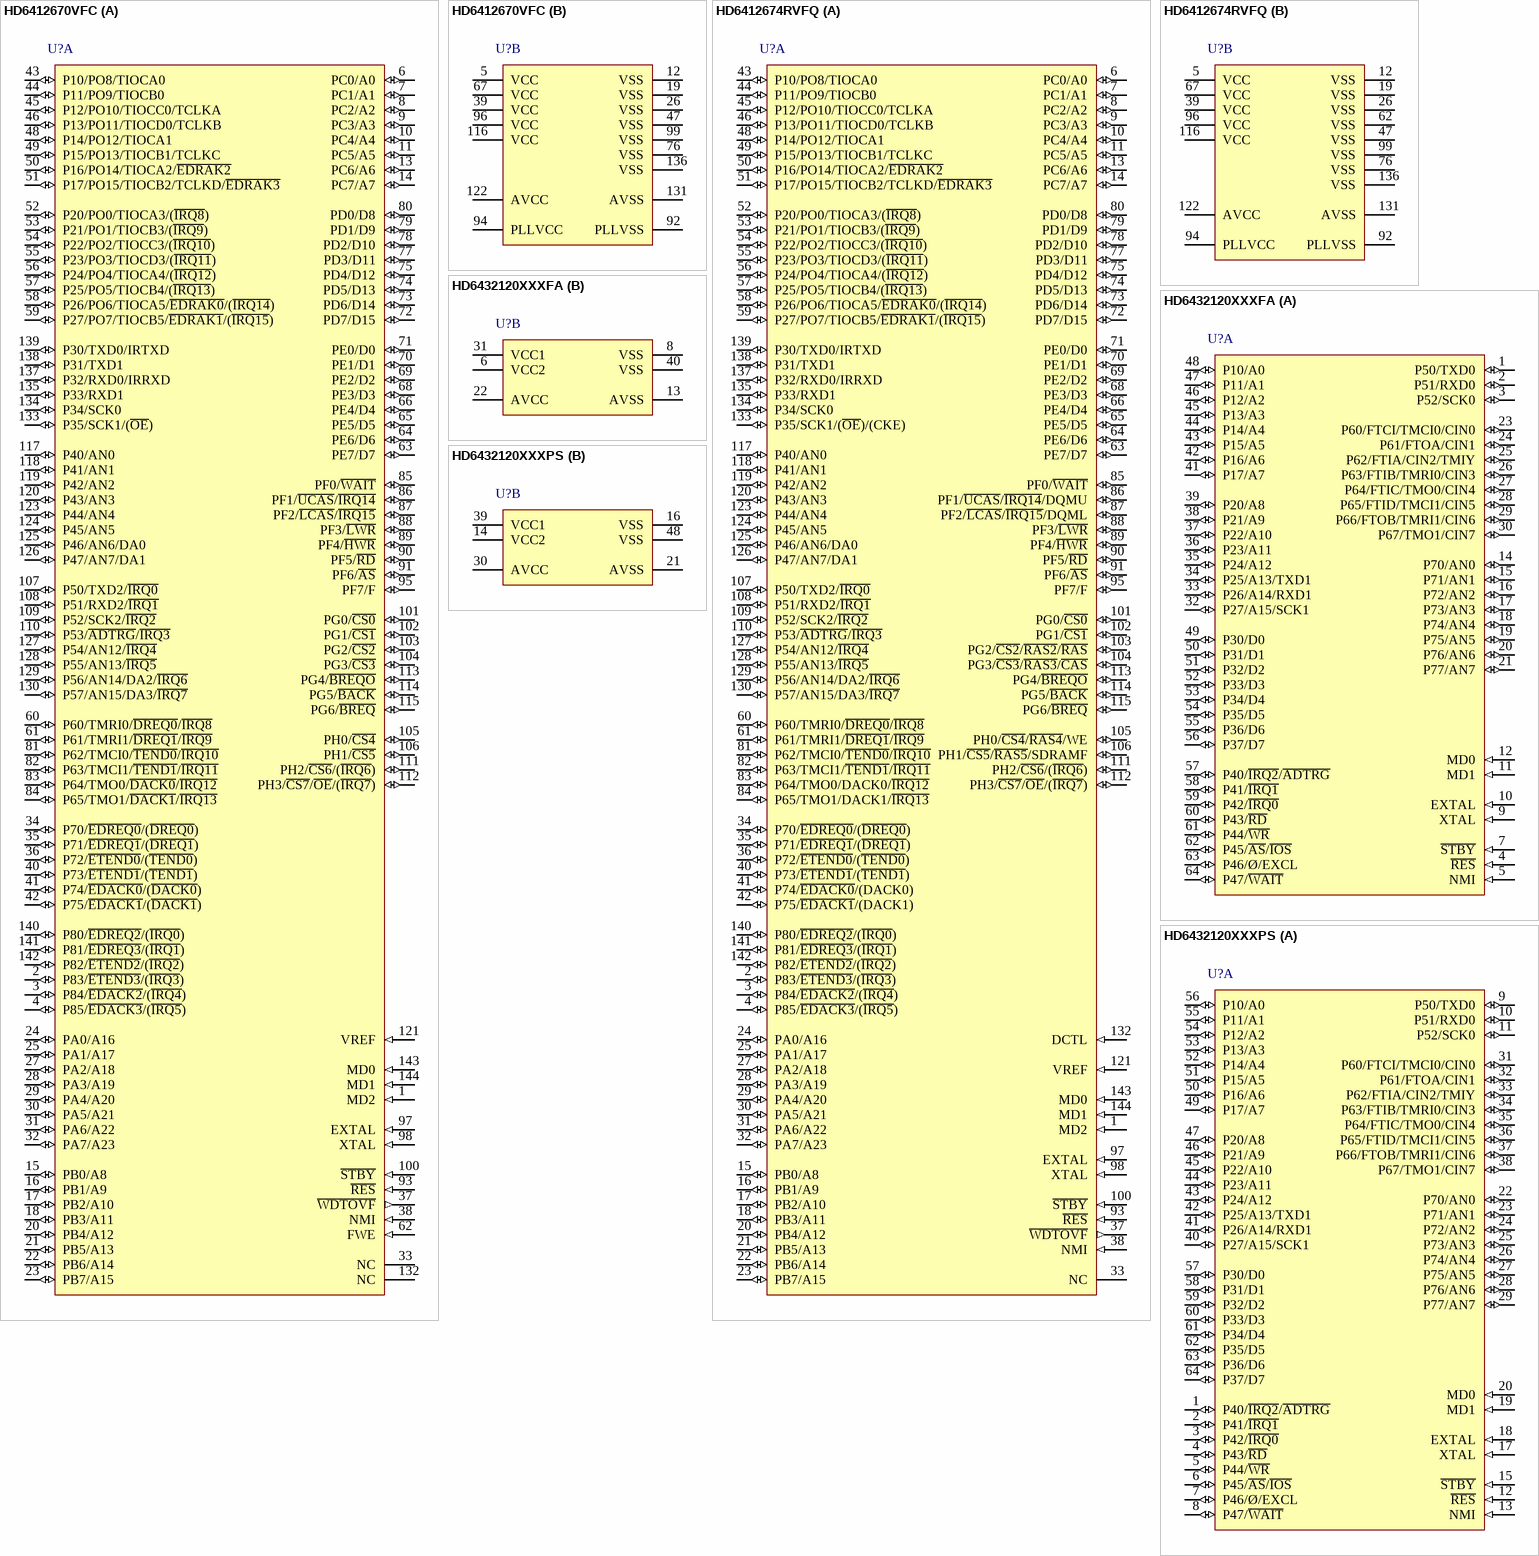
[diagram p101: symbols HD6412670VFC to HD6432120XXXPS]

## HD6412670VFC
designator U?
ROMless H8S/2600 Series, 2678 Group MCU, 8K RAM, FP-144G Pkg; Published: 28-Aug-2009; DatasheetVersion: Rev.3.00, Mar-2006; PackageVersion: Sep-2005; PackageReference: PRQP0144KA-A; Publisher: Altium Limited; PackageDescription: 144-Pin Plastic Quad Flat Pack, 20 x 20 x 2.7 mm Body, 0.5 mm Pitch; Code_JEITA: P-QFP144-20x20-0.50; ComponentLink1Description: Manufacturer Link; ComponentLink1URL: http://sg.renesas.com/fmwk.jsp?cnt=h8s_family_landing.jsp&fp=/products/mpumcu/h8s_family/; ComponentLink2Description: Datasheet; ComponentLink2URL: http://documentation.renesas.com/eng/products/mpumcu/rej09b0283_2678hm.pdf; ComponentLink3Description: Packaging Specification; ComponentLink3URL: http://sg.renesas.com/media/products/common_info/package/pdf/ic/code/prqp0144ka_a.pdf
footprint PRQP0144KA-A_N (Shrink QFP, 144-Leads, Body 20x20mm, Pitch 0.5mm, IPC Medium Density)
footprint PRQP0144KA-A_L (Shrink QFP, 144-Leads, Body 20x20mm, Pitch 0.5mm, IPC High Density)
footprint PRQP0144KA-A_M (Shrink QFP, 144-Leads, Body 20x20mm, Pitch 0.5mm, IPC Low Density)
part A pins: 1 MD2 (in), 2 P83/~{ETEND3}/(~{IRQ3}) (io), 3 P84/~{EDACK2}/(~{IRQ4}) (io), 4 P85/~{EDACK3}/(~{IRQ5}) (io), 6 PC0/A0 (io), 7 PC1/A1 (io), 8 PC2/A2 (io), 9 PC3/A3 (io), 10 PC4/A4 (io), 11 PC5/A5 (io), 13 PC6/A6 (io), 14 PC7/A7 (io), 15 PB0/A8 (io), 16 PB1/A9 (io), 17 PB2/A10 (io), 18 PB3/A11 (io), 20 PB4/A12 (io), 21 PB5/A13 (io), 22 PB6/A14 (io), 23 PB7/A15 (io), 24 PA0/A16 (io), 25 PA1/A17 (io), 27 PA2/A18 (io), 28 PA3/A19 (io), 29 PA4/A20 (io), 30 PA5/A21 (io), 31 PA6/A22 (io), 32 PA7/A23 (io), 33 NC, 34 P70/~{EDREQ0}/(~{DREQ0}) (io), 35 P71/~{EDREQ1}/(~{DREQ1}) (io), 36 P72/~{ETEND0}/(~{TEND0}) (io), 37 ~{WDTOVF} (out), 38 NMI (in), 40 P73/~{ETEND1}/(~{TEND1}) (io), 41 P74/~{EDACK0}/(~{DACK0}) (io), 42 P75/~{EDACK1}/(~{DACK1}) (io), 43 P10/PO8/TIOCA0 (io), 44 P11/PO9/TIOCB0 (io), 45 P12/PO10/TIOCC0/TCLKA (io), 46 P13/PO11/TIOCD0/TCLKB (io), 48 P14/PO12/TIOCA1 (io), 49 P15/PO13/TIOCB1/TCLKC (io), 50 P16/PO14/TIOCA2/~{EDRAK2} (io), 51 P17/PO15/TIOCB2/TCLKD/~{EDRAK3} (io), 52 P20/PO0/TIOCA3/(~{IRQ8}) (io), 53 P21/PO1/TIOCB3/(~{IRQ9}) (io), 54 P22/PO2/TIOCC3/(~{IRQ10}) (io), 55 P23/PO3/TIOCD3/(~{IRQ11}) (io), 56 P24/PO4/TIOCA4/(~{IRQ12}) (io), 57 P25/PO5/TIOCB4/(~{IRQ13}) (io), 58 P26/PO6/TIOCA5/~{EDRAK0}/(~{IRQ14}) (io), 59 P27/PO7/TIOCB5/~{EDRAK1}/(~{IRQ15}) (io), 60 P60/TMRI0/~{DREQ0}/~{IRQ8} (io), 61 P61/TMRI1/~{DREQ1}/~{IRQ9} (io), 62 FWE (in), 63 PE7/D7 (io), 64 PE6/D6 (io), 65 PE5/D5 (io), 66 PE4/D4 (io), 68 PE3/D3 (io), 69 PE2/D2 (io), 70 PE1/D1 (io), 71 PE0/D0 (io), 72 PD7/D15 (io), 73 PD6/D14 (io), 74 PD5/D13 (io), 75 PD4/D12 (io), 77 PD3/D11 (io), 78 PD2/D10 (io), 79 PD1/D9 (io), 80 PD0/D8 (io), 81 P62/TMCI0/~{TEND0}/~{IRQ10} (io), 82 P63/TMCI1/~{TEND1}/~{IRQ11} (io), 83 P64/TMO0/~{DACK0}/~{IRQ12} (io), 84 P65/TMO1/~{DACK1}/~{IRQ13} (io), 85 PF0/~{WAIT} (io), 86 PF1/~{UCAS}/~{IRQ14} (io), 87 PF2/~{LCAS}/~{IRQ15} (io), 88 PF3/~{LWR} (io), 89 PF4/~{HWR} (io), 90 PF5/~{RD} (io), 91 PF6/~{AS} (io), 93 ~{RES} (in), 95 PF7/F (io), 97 EXTAL (in), 98 XTAL (in), 100 ~{STBY} (in), 101 PG0/~{CS0} (io), 102 PG1/~{CS1} (io), 103 PG2/~{CS2} (io), 104 PG3/~{CS3} (io), 105 PH0/~{CS4} (io), 106 PH1/~{CS5} (io), 107 P50/TXD2/~{IRQ0} (io), 108 P51/RXD2/~{IRQ1} (io), 109 P52/SCK2/~{IRQ2} (io), 110 P53/~{ADTRG}/~{IRQ3} (io), 111 PH2/~{CS6}/(~{IRQ6}) (io), 112 PH3/~{CS7}/~{OE}/(~{IRQ7}) (io), 113 PG4/~{BREQO} (io), 114 PG5/~{BACK} (io), 115 PG6/~{BREQ} (io), 117 P40/AN0 (io), 118 P41/AN1 (io), 119 P42/AN2 (io), 120 P43/AN3 (io), 121 VREF (in), 123 P44/AN4 (io), 124 P45/AN5 (io), 125 P46/AN6/DA0 (io), 126 P47/AN7/DA1 (io), 127 P54/AN12/~{IRQ4} (io), 128 P55/AN13/~{IRQ5} (io), 129 P56/AN14/DA2/~{IRQ6} (io), 130 P57/AN15/DA3/~{IRQ7} (io), 132 NC, 133 P35/SCK1/(~{OE}) (io), 134 P34/SCK0 (io), 135 P33/RXD1 (io), 137 P32/RXD0/IRRXD (io), 138 P31/TXD1 (io), 139 P30/TXD0/IRTXD (io), 140 P80/~{EDREQ2}/(~{IRQ0}) (io), 141 P81/~{EDREQ3}/(~{IRQ1}) (io), 142 P82/~{ETEND2}/(~{IRQ2}) (io), 143 MD0 (in), 144 MD1 (in)
part B pins: 5 VCC (power), 12 VSS (power), 19 VSS (power), 26 VSS (power), 39 VCC (power), 47 VSS (power), 67 VCC (power), 76 VSS (power), 92 PLLVSS (power), 94 PLLVCC (power), 96 VCC (power), 99 VSS (power), 116 VCC (power), 122 AVCC (power), 131 AVSS (power), 136 VSS (power)

## HD6412674RVFQ
designator U?
ROMless H8S/2600 Series, 2678R Group MCU, 32K RAM, FP-144H Pkg; Published: 28-Aug-2009; DatasheetVersion: Rev.3.00, Mar-2006; PackageVersion: Sep-2005; PackageReference: PLQP0144KC-A; Publisher: Altium Limited; PackageDescription: 144-Pin Plastic Low Profile QFP, 20 x 20 x 1.45 mm Body, 0.5 mm Pitch; Code_JEITA: P-LQFP144-20x20-0.50; Code_IPC: SQFP50P2200X2200-144; ComponentLink1Description: Manufacturer Link; ComponentLink1URL: http://sg.renesas.com/fmwk.jsp?cnt=h8s_family_landing.jsp&fp=/products/mpumcu/h8s_family/; ComponentLink2Description: Datasheet; ComponentLink2URL: http://documentation.renesas.com/eng/products/mpumcu/rej09b0283_2678hm.pdf; ComponentLink3Description: Packaging Specification; ComponentLink3URL: http://sg.renesas.com/media/products/common_info/package/pdf/ic/code/plqp0144kc_a.pdf
footprint PLQP0144KC-A_N (Shrink QFP, 144-Leads, Body 20x20mm, Pitch 0.5mm, IPC Medium Density)
footprint PLQP0144KC-A_L (Shrink QFP, 144-Leads, Body 20x20mm, Pitch 0.5mm, IPC High Density)
footprint PLQP0144KC-A_M (Shrink QFP, 144-Leads, Body 20x20mm, Pitch 0.5mm, IPC Low Density)
part A pins: 1 MD2 (in), 2 P83/~{ETEND3}/(~{IRQ3}) (io), 3 P84/~{EDACK2}/(~{IRQ4}) (io), 4 P85/~{EDACK3}/(~{IRQ5}) (io), 6 PC0/A0 (io), 7 PC1/A1 (io), 8 PC2/A2 (io), 9 PC3/A3 (io), 10 PC4/A4 (io), 11 PC5/A5 (io), 13 PC6/A6 (io), 14 PC7/A7 (io), 15 PB0/A8 (io), 16 PB1/A9 (io), 17 PB2/A10 (io), 18 PB3/A11 (io), 20 PB4/A12 (io), 21 PB5/A13 (io), 22 PB6/A14 (io), 23 PB7/A15 (io), 24 PA0/A16 (io), 25 PA1/A17 (io), 27 PA2/A18 (io), 28 PA3/A19 (io), 29 PA4/A20 (io), 30 PA5/A21 (io), 31 PA6/A22 (io), 32 PA7/A23 (io), 33 NC, 34 P70/~{EDREQ0}/(~{DREQ0}) (io), 35 P71/~{EDREQ1}/(~{DREQ1}) (io), 36 P72/~{ETEND0}/(~{TEND0}) (io), 37 ~{WDTOVF} (out), 38 NMI (in), 40 P73/~{ETEND1}/(~{TEND1}) (io), 41 P74/~{EDACK0}/(DACK0) (io), 42 P75/~{EDACK1}/(DACK1) (io), 43 P10/PO8/TIOCA0 (io), 44 P11/PO9/TIOCB0 (io), 45 P12/PO10/TIOCC0/TCLKA (io), 46 P13/PO11/TIOCD0/TCLKB (io), 48 P14/PO12/TIOCA1 (io), 49 P15/PO13/TIOCB1/TCLKC (io), 50 P16/PO14/TIOCA2/~{EDRAK2} (io), 51 P17/PO15/TIOCB2/TCLKD/~{EDRAK3} (io), 52 P20/PO0/TIOCA3/(~{IRQ8}) (io), 53 P21/PO1/TIOCB3/(~{IRQ9}) (io), 54 P22/PO2/TIOCC3/(~{IRQ10}) (io), 55 P23/PO3/TIOCD3/(~{IRQ11}) (io), 56 P24/PO4/TIOCA4/(~{IRQ12}) (io), 57 P25/PO5/TIOCB4/(~{IRQ13}) (io), 58 P26/PO6/TIOCA5/~{EDRAK0}/(~{IRQ14}) (io), 59 P27/PO7/TIOCB5/~{EDRAK1}/(~{IRQ15}) (io), 60 P60/TMRI0/~{DREQ0}/~{IRQ8} (io), 61 P61/TMRI1/~{DREQ1}/~{IRQ9} (io), 63 PE7/D7 (io), 64 PE6/D6 (io), 65 PE5/D5 (io), 66 PE4/D4 (io), 68 PE3/D3 (io), 69 PE2/D2 (io), 70 PE1/D1 (io), 71 PE0/D0 (io), 72 PD7/D15 (io), 73 PD6/D14 (io), 74 PD5/D13 (io), 75 PD4/D12 (io), 77 PD3/D11 (io), 78 PD2/D10 (io), 79 PD1/D9 (io), 80 PD0/D8 (io), 81 P62/TMCI0/~{TEND0}/~{IRQ10} (io), 82 P63/TMCI1/~{TEND1}/~{IRQ11} (io), 83 P64/TMO0/DACK0/~{IRQ12} (io), 84 P65/TMO1/DACK1/~{IRQ13} (io), 85 PF0/~{WAIT} (io), 86 PF1/~{UCAS}/~{IRQ14}/DQMU (io), 87 PF2/~{LCAS}/~{IRQ15}/DQML (io), 88 PF3/~{LWR} (io), 89 PF4/~{HWR} (io), 90 PF5/~{RD} (io), 91 PF6/~{AS} (io), 93 ~{RES} (in), 95 PF7/F (io), 97 EXTAL (in), 98 XTAL (in), 100 ~{STBY} (in), 101 PG0/~{CS0} (io), 102 PG1/~{CS1} (io), 103 PG2/~{CS2}/~{RAS2}/~{RAS} (io), 104 PG3/~{CS3}/~{RAS3}/~{CAS} (io), 105 PH0/~{CS4}/~{RAS4}/WE (io), 106 PH1/~{CS5}/~{RAS5}/SDRAMF (io), 107 P50/TXD2/~{IRQ0} (io), 108 P51/RXD2/~{IRQ1} (io), 109 P52/SCK2/~{IRQ2} (io), 110 P53/~{ADTRG}/~{IRQ3} (io), 111 PH2/~{CS6}/(~{IRQ6}) (io), 112 PH3/~{CS7}/~{OE}/(~{IRQ7}) (io), 113 PG4/~{BREQO} (io), 114 PG5/~{BACK} (io), 115 PG6/~{BREQ} (io), 117 P40/AN0 (io), 118 P41/AN1 (io), 119 P42/AN2 (io), 120 P43/AN3 (io), 121 VREF (in), 123 P44/AN4 (io), 124 P45/AN5 (io), 125 P46/AN6/DA0 (io), 126 P47/AN7/DA1 (io), 127 P54/AN12/~{IRQ4} (io), 128 P55/AN13/~{IRQ5} (io), 129 P56/AN14/DA2/~{IRQ6} (io), 130 P57/AN15/DA3/~{IRQ7} (io), 132 DCTL (in), 133 P35/SCK1/(~{OE})/(CKE) (io), 134 P34/SCK0 (io), 135 P33/RXD1 (io), 137 P32/RXD0/IRRXD (io), 138 P31/TXD1 (io), 139 P30/TXD0/IRTXD (io), 140 P80/~{EDREQ2}/(~{IRQ0}) (io), 141 P81/~{EDREQ3}/(~{IRQ1}) (io), 142 P82/~{ETEND2}/(~{IRQ2}) (io), 143 MD0 (in), 144 MD1 (in)
part B pins: 5 VCC (power), 12 VSS (power), 19 VSS (power), 26 VSS (power), 39 VCC (power), 47 VSS (power), 62 VSS (power), 67 VCC (power), 76 VSS (power), 92 PLLVSS (power), 94 PLLVCC (power), 96 VCC (power), 99 VSS (power), 116 VCC (power), 122 AVCC (power), 131 AVSS (power), 136 VSS (power)

## HD6432120XXXFA
designator U?
Mask ROM H8S/2100 Series, 2124 Group MCU, 32K ROM, 2K RAM, FP-64A Pkg; Published: 28-Aug-2009; DatasheetVersion: Rev.3.0, Mar-2001; PackageVersion: Sep-2005; PackageReference: PRQP0064GB-A; Publisher: Altium Limited; PackageDescription: 64-Pin Plastic Quad Flat Pack, 14 x 14 x 2.7 mm Body, 0.8 mm Pitch; Code_JEITA: P-QFP64-14x14-0.80; ComponentLink1Description: Manufacturer Link; ComponentLink1URL: http://sg.renesas.com/fmwk.jsp?cnt=h8s_family_landing.jsp&fp=/products/mpumcu/h8s_family/; ComponentLink2Description: Datasheet; ComponentLink2URL: http://documentation.renesas.com/eng/products/mpumcu/e602114_h8s2128.pdf; ComponentLink3Description: Packaging Specification; ComponentLink3URL: http://sg.renesas.com/media/products/common_info/package/pdf/ic/code/prqp0064gb_a.pdf
footprint PRQP0064GB-A_N (QFP, 64-Leads, Body 14x14mm, Pitch 0.8mm, IPC Medium Density)
footprint PRQP0064GB-A_L (QFP, 64-Leads, Body 14x14mm, Pitch 0.8mm, IPC High Density)
footprint PRQP0064GB-A_M (QFP, 64-Leads, Body 14x14mm, Pitch 0.8mm, IPC Low Density)
part A pins: 1 P50/TXD0 (io), 2 P51/RXD0 (io), 3 P52/SCK0 (io), 4 ~{RES} (in), 5 NMI (in), 7 ~{STBY} (in), 9 XTAL (in), 10 EXTAL (in), 11 MD1 (in), 12 MD0 (in), 14 P70/AN0 (io), 15 P71/AN1 (io), 16 P72/AN2 (io), 17 P73/AN3 (io), 18 P74/AN4 (io), 19 P75/AN5 (io), 20 P76/AN6 (io), 21 P77/AN7 (io), 23 P60/FTCI/TMCI0/CIN0 (io), 24 P61/FTOA/CIN1 (io), 25 P62/FTIA/CIN2/TMIY (io), 26 P63/FTIB/TMRI0/CIN3 (io), 27 P64/FTIC/TMO0/CIN4 (io), 28 P65/FTID/TMCI1/CIN5 (io), 29 P66/FTOB/TMRI1/CIN6 (io), 30 P67/TMO1/CIN7 (io), 32 P27/A15/SCK1 (io), 33 P26/A14/RXD1 (io), 34 P25/A13/TXD1 (io), 35 P24/A12 (io), 36 P23/A11 (io), 37 P22/A10 (io), 38 P21/A9 (io), 39 P20/A8 (io), 41 P17/A7 (io), 42 P16/A6 (io), 43 P15/A5 (io), 44 P14/A4 (io), 45 P13/A3 (io), 46 P12/A2 (io), 47 P11/A1 (io), 48 P10/A0 (io), 49 P30/D0 (io), 50 P31/D1 (io), 51 P32/D2 (io), 52 P33/D3 (io), 53 P34/D4 (io), 54 P35/D5 (io), 55 P36/D6 (io), 56 P37/D7 (io), 57 P40/~{IRQ2}/~{ADTRG} (io), 58 P41/~{IRQ1} (io), 59 P42/~{IRQ0} (io), 60 P43/~{RD} (io), 61 P44/~{WR} (io), 62 P45/~{AS}/~{IOS} (io), 63 P46/Ø/EXCL (io), 64 P47/~{WAIT} (io)
part B pins: 6 VCC2 (power), 8 VSS (power), 13 AVSS (power), 22 AVCC (power), 31 VCC1 (power), 40 VSS (power)

## HD6432120XXXPS
designator U?
Mask ROM H8S/2100 Series, 2124 Group MCU, 32K ROM, 2K RAM, DP-64S Pkg; Published: 28-Aug-2009; DatasheetVersion: Rev.3.0, Mar-2001; PackageVersion: Sep-2005; PackageReference: PRDP0064BB-A; Publisher: Altium Limited; PackageDescription: 64-Pin Plastic Shrink DIP, 57.6 x 17 mm Body, 19.05 mm Row Spacing , 1.778 mm Pitch; Code_JEITA: P-SDIP64-17x57.6-1.78; ComponentLink1Description: Manufacturer Link; ComponentLink1URL: http://sg.renesas.com/fmwk.jsp?cnt=h8s_family_landing.jsp&fp=/products/mpumcu/h8s_family/; ComponentLink2Description: Datasheet; ComponentLink2URL: http://documentation.renesas.com/eng/products/mpumcu/e602114_h8s2128.pdf; ComponentLink3Description: Packaging Specification; ComponentLink3URL: http://sg.renesas.com/media/products/common_info/package/pdf/ic/code/prdp0064bb_a.pdf
footprint PRDP0064BB-A (DIP, 64-Leads, Row Spacing 19.05mm, Pitch 1.778mm, Body 58.19x17.05mm)
part A pins: 1 P40/~{IRQ2}/~{ADTRG} (io), 2 P41/~{IRQ1} (io), 3 P42/~{IRQ0} (io), 4 P43/~{RD} (io), 5 P44/~{WR} (io), 6 P45/~{AS}/~{IOS} (io), 7 P46/Ø/EXCL (io), 8 P47/~{WAIT} (io), 9 P50/TXD0 (io), 10 P51/RXD0 (io), 11 P52/SCK0 (io), 12 ~{RES} (in), 13 NMI (in), 15 ~{STBY} (in), 17 XTAL (in), 18 EXTAL (in), 19 MD1 (in), 20 MD0 (in), 22 P70/AN0 (io), 23 P71/AN1 (io), 24 P72/AN2 (io), 25 P73/AN3 (io), 26 P74/AN4 (io), 27 P75/AN5 (io), 28 P76/AN6 (io), 29 P77/AN7 (io), 31 P60/FTCI/TMCI0/CIN0 (io), 32 P61/FTOA/CIN1 (io), 33 P62/FTIA/CIN2/TMIY (io), 34 P63/FTIB/TMRI0/CIN3 (io), 35 P64/FTIC/TMO0/CIN4 (io), 36 P65/FTID/TMCI1/CIN5 (io), 37 P66/FTOB/TMRI1/CIN6 (io), 38 P67/TMO1/CIN7 (io), 40 P27/A15/SCK1 (io), 41 P26/A14/RXD1 (io), 42 P25/A13/TXD1 (io), 43 P24/A12 (io), 44 P23/A11 (io), 45 P22/A10 (io), 46 P21/A9 (io), 47 P20/A8 (io), 49 P17/A7 (io), 50 P16/A6 (io), 51 P15/A5 (io), 52 P14/A4 (io), 53 P13/A3 (io), 54 P12/A2 (io), 55 P11/A1 (io), 56 P10/A0 (io), 57 P30/D0 (io), 58 P31/D1 (io), 59 P32/D2 (io), 60 P33/D3 (io), 61 P34/D4 (io), 62 P35/D5 (io), 63 P36/D6 (io), 64 P37/D7 (io)
part B pins: 14 VCC2 (power), 16 VSS (power), 21 AVSS (power), 30 AVCC (power), 39 VCC1 (power), 48 VSS (power)

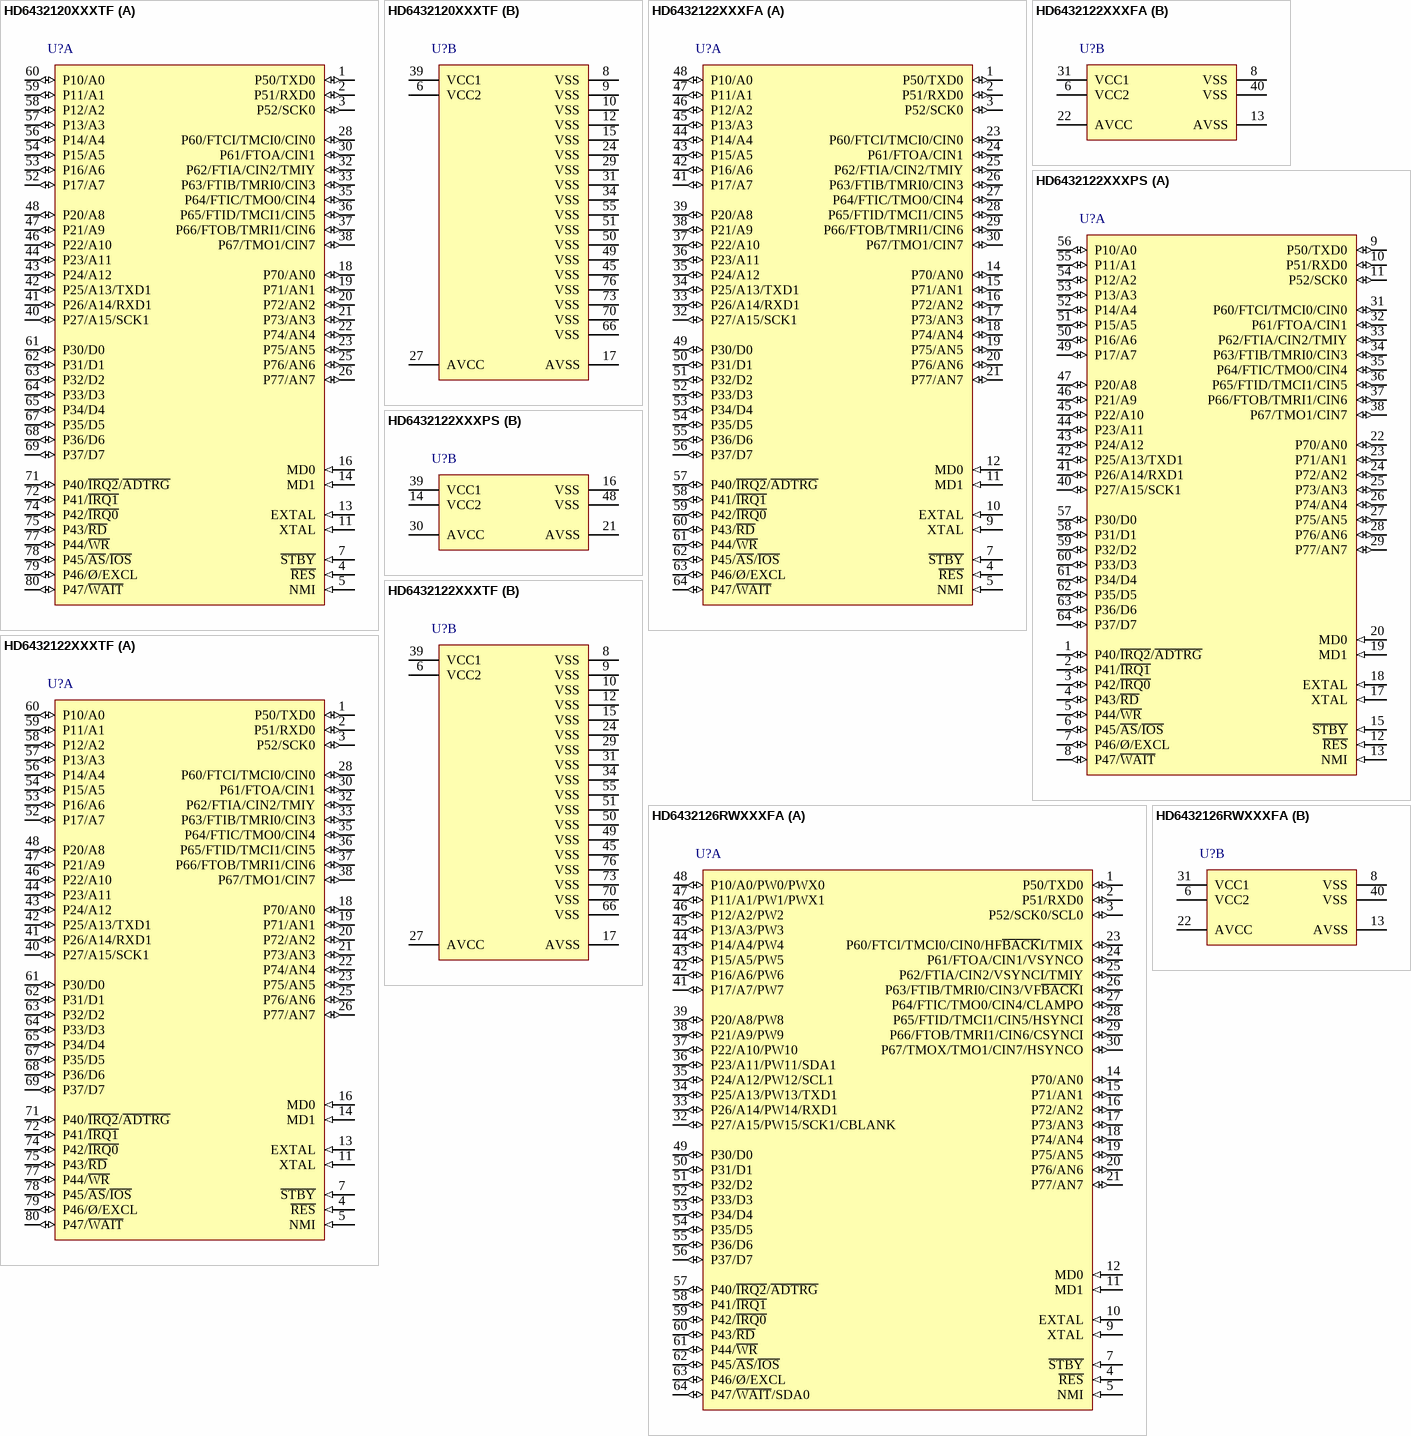
[diagram p102: symbols HD6432120XXXTF to HD6432126RWXXXFA]

## HD6432120XXXTF
designator U?
Mask ROM H8S/2100 Series, 2124 Group MCU, 32K ROM, 2K RAM, TFP-80C Pkg; Published: 28-Aug-2009; DatasheetVersion: Rev.3.0, Mar-2001; PackageVersion: Sep-2005; PackageReference: PTQP0080KC-A; Publisher: Altium Limited; PackageDescription: 80-Pin Plastic Thin Quad Flat Pack, 12 x 12 x 1.0 mm Body, 0.5 mm Pitch; Code_JEITA: P-TQFP80-12x12-0.50; ComponentLink1Description: Manufacturer Link; ComponentLink1URL: http://sg.renesas.com/fmwk.jsp?cnt=h8s_family_landing.jsp&fp=/products/mpumcu/h8s_family/; ComponentLink2Description: Datasheet; ComponentLink2URL: http://documentation.renesas.com/eng/products/mpumcu/e602114_h8s2128.pdf; ComponentLink3Description: Packaging Specification; ComponentLink3URL: http://sg.renesas.com/media/products/common_info/package/pdf/ic/code/ptqp0080kc_a.pdf
footprint PTQP0080KC-A_N (Thin QFP, 80-Leads, Body 12x12mm, Pitch 0.5mm, IPC Medium Density)
footprint PTQP0080KC-A_L (Thin QFP, 80-Leads, Body 12x12mm, Pitch 0.5mm, IPC High Density)
footprint PTQP0080KC-A_M (Thin QFP, 80-Leads, Body 12x12mm, Pitch 0.5mm, IPC Low Density)
part A pins: 1 P50/TXD0 (io), 2 P51/RXD0 (io), 3 P52/SCK0 (io), 4 ~{RES} (in), 5 NMI (in), 7 ~{STBY} (in), 11 XTAL (in), 13 EXTAL (in), 14 MD1 (in), 16 MD0 (in), 18 P70/AN0 (io), 19 P71/AN1 (io), 20 P72/AN2 (io), 21 P73/AN3 (io), 22 P74/AN4 (io), 23 P75/AN5 (io), 25 P76/AN6 (io), 26 P77/AN7 (io), 28 P60/FTCI/TMCI0/CIN0 (io), 30 P61/FTOA/CIN1 (io), 32 P62/FTIA/CIN2/TMIY (io), 33 P63/FTIB/TMRI0/CIN3 (io), 35 P64/FTIC/TMO0/CIN4 (io), 36 P65/FTID/TMCI1/CIN5 (io), 37 P66/FTOB/TMRI1/CIN6 (io), 38 P67/TMO1/CIN7 (io), 40 P27/A15/SCK1 (io), 41 P26/A14/RXD1 (io), 42 P25/A13/TXD1 (io), 43 P24/A12 (io), 44 P23/A11 (io), 46 P22/A10 (io), 47 P21/A9 (io), 48 P20/A8 (io), 52 P17/A7 (io), 53 P16/A6 (io), 54 P15/A5 (io), 56 P14/A4 (io), 57 P13/A3 (io), 58 P12/A2 (io), 59 P11/A1 (io), 60 P10/A0 (io), 61 P30/D0 (io), 62 P31/D1 (io), 63 P32/D2 (io), 64 P33/D3 (io), 65 P34/D4 (io), 67 P35/D5 (io), 68 P36/D6 (io), 69 P37/D7 (io), 71 P40/~{IRQ2}/~{ADTRG} (io), 72 P41/~{IRQ1} (io), 74 P42/~{IRQ0} (io), 75 P43/~{RD} (io), 77 P44/~{WR} (io), 78 P45/~{AS}/~{IOS} (io), 79 P46/Ø/EXCL (io), 80 P47/~{WAIT} (io)
part B pins: 6 VCC2 (power), 8 VSS (power), 9 VSS (power), 10 VSS (power), 12 VSS (power), 15 VSS (power), 17 AVSS (power), 24 VSS (power), 27 AVCC (power), 29 VSS (power), 31 VSS (power), 34 VSS (power), 39 VCC1 (power), 45 VSS (power), 49 VSS (power), 50 VSS (power), 51 VSS (power), 55 VSS (power), 66 VSS (power), 70 VSS (power), 73 VSS (power), 76 VSS (power)

## HD6432122XXXFA
designator U?
Mask ROM H8S/2100 Series, 2124 Group MCU, 64K ROM, 2K RAM, FP-64A Pkg; Published: 28-Aug-2009; DatasheetVersion: Rev.3.0, Mar-2001; PackageVersion: Sep-2005; PackageReference: PRQP0064GB-A; Publisher: Altium Limited; PackageDescription: 64-Pin Plastic Quad Flat Pack, 14 x 14 x 2.7 mm Body, 0.8 mm Pitch; Code_JEITA: P-QFP64-14x14-0.80; ComponentLink1Description: Manufacturer Link; ComponentLink1URL: http://sg.renesas.com/fmwk.jsp?cnt=h8s_family_landing.jsp&fp=/products/mpumcu/h8s_family/; ComponentLink2Description: Datasheet; ComponentLink2URL: http://documentation.renesas.com/eng/products/mpumcu/e602114_h8s2128.pdf; ComponentLink3Description: Packaging Specification; ComponentLink3URL: http://sg.renesas.com/media/products/common_info/package/pdf/ic/code/prqp0064gb_a.pdf
footprint PRQP0064GB-A_N (QFP, 64-Leads, Body 14x14mm, Pitch 0.8mm, IPC Medium Density)
footprint PRQP0064GB-A_L (QFP, 64-Leads, Body 14x14mm, Pitch 0.8mm, IPC High Density)
footprint PRQP0064GB-A_M (QFP, 64-Leads, Body 14x14mm, Pitch 0.8mm, IPC Low Density)
part A pins: 1 P50/TXD0 (io), 2 P51/RXD0 (io), 3 P52/SCK0 (io), 4 ~{RES} (in), 5 NMI (in), 7 ~{STBY} (in), 9 XTAL (in), 10 EXTAL (in), 11 MD1 (in), 12 MD0 (in), 14 P70/AN0 (io), 15 P71/AN1 (io), 16 P72/AN2 (io), 17 P73/AN3 (io), 18 P74/AN4 (io), 19 P75/AN5 (io), 20 P76/AN6 (io), 21 P77/AN7 (io), 23 P60/FTCI/TMCI0/CIN0 (io), 24 P61/FTOA/CIN1 (io), 25 P62/FTIA/CIN2/TMIY (io), 26 P63/FTIB/TMRI0/CIN3 (io), 27 P64/FTIC/TMO0/CIN4 (io), 28 P65/FTID/TMCI1/CIN5 (io), 29 P66/FTOB/TMRI1/CIN6 (io), 30 P67/TMO1/CIN7 (io), 32 P27/A15/SCK1 (io), 33 P26/A14/RXD1 (io), 34 P25/A13/TXD1 (io), 35 P24/A12 (io), 36 P23/A11 (io), 37 P22/A10 (io), 38 P21/A9 (io), 39 P20/A8 (io), 41 P17/A7 (io), 42 P16/A6 (io), 43 P15/A5 (io), 44 P14/A4 (io), 45 P13/A3 (io), 46 P12/A2 (io), 47 P11/A1 (io), 48 P10/A0 (io), 49 P30/D0 (io), 50 P31/D1 (io), 51 P32/D2 (io), 52 P33/D3 (io), 53 P34/D4 (io), 54 P35/D5 (io), 55 P36/D6 (io), 56 P37/D7 (io), 57 P40/~{IRQ2}/~{ADTRG} (io), 58 P41/~{IRQ1} (io), 59 P42/~{IRQ0} (io), 60 P43/~{RD} (io), 61 P44/~{WR} (io), 62 P45/~{AS}/~{IOS} (io), 63 P46/Ø/EXCL (io), 64 P47/~{WAIT} (io)
part B pins: 6 VCC2 (power), 8 VSS (power), 13 AVSS (power), 22 AVCC (power), 31 VCC1 (power), 40 VSS (power)

## HD6432122XXXPS
designator U?
Mask ROM H8S/2100 Series, 2124 Group MCU, 64K ROM, 2K RAM, DP-64S Pkg; Published: 28-Aug-2009; DatasheetVersion: Rev.3.0, Mar-2001; PackageVersion: Sep-2005; PackageReference: PRDP0064BB-A; Publisher: Altium Limited; PackageDescription: 64-Pin Plastic Shrink DIP, 57.6 x 17 mm Body, 19.05 mm Row Spacing , 1.778 mm Pitch; Code_JEITA: P-SDIP64-17x57.6-1.78; ComponentLink1Description: Manufacturer Link; ComponentLink1URL: http://sg.renesas.com/fmwk.jsp?cnt=h8s_family_landing.jsp&fp=/products/mpumcu/h8s_family/; ComponentLink2Description: Datasheet; ComponentLink2URL: http://documentation.renesas.com/eng/products/mpumcu/e602114_h8s2128.pdf; ComponentLink3Description: Packaging Specification; ComponentLink3URL: http://sg.renesas.com/media/products/common_info/package/pdf/ic/code/prdp0064bb_a.pdf
footprint PRDP0064BB-A (DIP, 64-Leads, Row Spacing 19.05mm, Pitch 1.778mm, Body 58.19x17.05mm)
part A pins: 1 P40/~{IRQ2}/~{ADTRG} (io), 2 P41/~{IRQ1} (io), 3 P42/~{IRQ0} (io), 4 P43/~{RD} (io), 5 P44/~{WR} (io), 6 P45/~{AS}/~{IOS} (io), 7 P46/Ø/EXCL (io), 8 P47/~{WAIT} (io), 9 P50/TXD0 (io), 10 P51/RXD0 (io), 11 P52/SCK0 (io), 12 ~{RES} (in), 13 NMI (in), 15 ~{STBY} (in), 17 XTAL (in), 18 EXTAL (in), 19 MD1 (in), 20 MD0 (in), 22 P70/AN0 (io), 23 P71/AN1 (io), 24 P72/AN2 (io), 25 P73/AN3 (io), 26 P74/AN4 (io), 27 P75/AN5 (io), 28 P76/AN6 (io), 29 P77/AN7 (io), 31 P60/FTCI/TMCI0/CIN0 (io), 32 P61/FTOA/CIN1 (io), 33 P62/FTIA/CIN2/TMIY (io), 34 P63/FTIB/TMRI0/CIN3 (io), 35 P64/FTIC/TMO0/CIN4 (io), 36 P65/FTID/TMCI1/CIN5 (io), 37 P66/FTOB/TMRI1/CIN6 (io), 38 P67/TMO1/CIN7 (io), 40 P27/A15/SCK1 (io), 41 P26/A14/RXD1 (io), 42 P25/A13/TXD1 (io), 43 P24/A12 (io), 44 P23/A11 (io), 45 P22/A10 (io), 46 P21/A9 (io), 47 P20/A8 (io), 49 P17/A7 (io), 50 P16/A6 (io), 51 P15/A5 (io), 52 P14/A4 (io), 53 P13/A3 (io), 54 P12/A2 (io), 55 P11/A1 (io), 56 P10/A0 (io), 57 P30/D0 (io), 58 P31/D1 (io), 59 P32/D2 (io), 60 P33/D3 (io), 61 P34/D4 (io), 62 P35/D5 (io), 63 P36/D6 (io), 64 P37/D7 (io)
part B pins: 14 VCC2 (power), 16 VSS (power), 21 AVSS (power), 30 AVCC (power), 39 VCC1 (power), 48 VSS (power)

## HD6432122XXXTF
designator U?
Mask ROM H8S/2100 Series, 2124 Group MCU, 64K ROM, 2K RAM, TFP-80C Pkg; Published: 28-Aug-2009; DatasheetVersion: Rev.3.0, Mar-2001; PackageVersion: Sep-2005; PackageReference: PTQP0080KC-A; Publisher: Altium Limited; PackageDescription: 80-Pin Plastic Thin Quad Flat Pack, 12 x 12 x 1.0 mm Body, 0.5 mm Pitch; Code_JEITA: P-TQFP80-12x12-0.50; ComponentLink1Description: Manufacturer Link; ComponentLink1URL: http://sg.renesas.com/fmwk.jsp?cnt=h8s_family_landing.jsp&fp=/products/mpumcu/h8s_family/; ComponentLink2Description: Datasheet; ComponentLink2URL: http://documentation.renesas.com/eng/products/mpumcu/e602114_h8s2128.pdf; ComponentLink3Description: Packaging Specification; ComponentLink3URL: http://sg.renesas.com/media/products/common_info/package/pdf/ic/code/ptqp0080kc_a.pdf
footprint PTQP0080KC-A_N (Thin QFP, 80-Leads, Body 12x12mm, Pitch 0.5mm, IPC Medium Density)
footprint PTQP0080KC-A_L (Thin QFP, 80-Leads, Body 12x12mm, Pitch 0.5mm, IPC High Density)
footprint PTQP0080KC-A_M (Thin QFP, 80-Leads, Body 12x12mm, Pitch 0.5mm, IPC Low Density)
part A pins: 1 P50/TXD0 (io), 2 P51/RXD0 (io), 3 P52/SCK0 (io), 4 ~{RES} (in), 5 NMI (in), 7 ~{STBY} (in), 11 XTAL (in), 13 EXTAL (in), 14 MD1 (in), 16 MD0 (in), 18 P70/AN0 (io), 19 P71/AN1 (io), 20 P72/AN2 (io), 21 P73/AN3 (io), 22 P74/AN4 (io), 23 P75/AN5 (io), 25 P76/AN6 (io), 26 P77/AN7 (io), 28 P60/FTCI/TMCI0/CIN0 (io), 30 P61/FTOA/CIN1 (io), 32 P62/FTIA/CIN2/TMIY (io), 33 P63/FTIB/TMRI0/CIN3 (io), 35 P64/FTIC/TMO0/CIN4 (io), 36 P65/FTID/TMCI1/CIN5 (io), 37 P66/FTOB/TMRI1/CIN6 (io), 38 P67/TMO1/CIN7 (io), 40 P27/A15/SCK1 (io), 41 P26/A14/RXD1 (io), 42 P25/A13/TXD1 (io), 43 P24/A12 (io), 44 P23/A11 (io), 46 P22/A10 (io), 47 P21/A9 (io), 48 P20/A8 (io), 52 P17/A7 (io), 53 P16/A6 (io), 54 P15/A5 (io), 56 P14/A4 (io), 57 P13/A3 (io), 58 P12/A2 (io), 59 P11/A1 (io), 60 P10/A0 (io), 61 P30/D0 (io), 62 P31/D1 (io), 63 P32/D2 (io), 64 P33/D3 (io), 65 P34/D4 (io), 67 P35/D5 (io), 68 P36/D6 (io), 69 P37/D7 (io), 71 P40/~{IRQ2}/~{ADTRG} (io), 72 P41/~{IRQ1} (io), 74 P42/~{IRQ0} (io), 75 P43/~{RD} (io), 77 P44/~{WR} (io), 78 P45/~{AS}/~{IOS} (io), 79 P46/Ø/EXCL (io), 80 P47/~{WAIT} (io)
part B pins: 6 VCC2 (power), 8 VSS (power), 9 VSS (power), 10 VSS (power), 12 VSS (power), 15 VSS (power), 17 AVSS (power), 24 VSS (power), 27 AVCC (power), 29 VSS (power), 31 VSS (power), 34 VSS (power), 39 VCC1 (power), 45 VSS (power), 49 VSS (power), 50 VSS (power), 51 VSS (power), 55 VSS (power), 66 VSS (power), 70 VSS (power), 73 VSS (power), 76 VSS (power)

## HD6432126RWXXXFA
designator U?
Mask ROM H8S/2100 Series, 2128 Group MCU, 32K ROM, 2K RAM, FP-64A Pkg; Published: 28-Aug-2009; DatasheetVersion: Rev.3.0, Mar-2001; PackageVersion: Sep-2005; PackageReference: PRQP0064GB-A; Publisher: Altium Limited; PackageDescription: 64-Pin Plastic Quad Flat Pack, 14 x 14 x 2.7 mm Body, 0.8 mm Pitch; Code_JEITA: P-QFP64-14x14-0.80; ComponentLink1Description: Manufacturer Link; ComponentLink1URL: http://sg.renesas.com/fmwk.jsp?cnt=h8s_family_landing.jsp&fp=/products/mpumcu/h8s_family/; ComponentLink2Description: Datasheet; ComponentLink2URL: http://documentation.renesas.com/eng/products/mpumcu/e602114_h8s2128.pdf; ComponentLink3Description: Packaging Specification; ComponentLink3URL: http://sg.renesas.com/media/products/common_info/package/pdf/ic/code/prqp0064gb_a.pdf
footprint PRQP0064GB-A_N (QFP, 64-Leads, Body 14x14mm, Pitch 0.8mm, IPC Medium Density)
footprint PRQP0064GB-A_L (QFP, 64-Leads, Body 14x14mm, Pitch 0.8mm, IPC High Density)
footprint PRQP0064GB-A_M (QFP, 64-Leads, Body 14x14mm, Pitch 0.8mm, IPC Low Density)
part A pins: 1 P50/TXD0 (io), 2 P51/RXD0 (io), 3 P52/SCK0/SCL0 (io), 4 ~{RES} (in), 5 NMI (in), 7 ~{STBY} (in), 9 XTAL (in), 10 EXTAL (in), 11 MD1 (in), 12 MD0 (in), 14 P70/AN0 (io), 15 P71/AN1 (io), 16 P72/AN2 (io), 17 P73/AN3 (io), 18 P74/AN4 (io), 19 P75/AN5 (io), 20 P76/AN6 (io), 21 P77/AN7 (io), 23 P60/FTCI/TMCI0/CIN0/HF~{BACK}I/TMIX (io), 24 P61/FTOA/CIN1/VSYNCO (io), 25 P62/FTIA/CIN2/VSYNCI/TMIY (io), 26 P63/FTIB/TMRI0/CIN3/VF~{BACK}I (io), 27 P64/FTIC/TMO0/CIN4/CLAMPO (io), 28 P65/FTID/TMCI1/CIN5/HSYNCI (io), 29 P66/FTOB/TMRI1/CIN6/CSYNCI (io), 30 P67/TMOX/TMO1/CIN7/HSYNCO (io), 32 P27/A15/PW15/SCK1/CBLANK (io), 33 P26/A14/PW14/RXD1 (io), 34 P25/A13/PW13/TXD1 (io), 35 P24/A12/PW12/SCL1 (io), 36 P23/A11/PW11/SDA1 (io), 37 P22/A10/PW10 (io), 38 P21/A9/PW9 (io), 39 P20/A8/PW8 (io), 41 P17/A7/PW7 (io), 42 P16/A6/PW6 (io), 43 P15/A5/PW5 (io), 44 P14/A4/PW4 (io), 45 P13/A3/PW3 (io), 46 P12/A2/PW2 (io), 47 P11/A1/PW1/PWX1 (io), 48 P10/A0/PW0/PWX0 (io), 49 P30/D0 (io), 50 P31/D1 (io), 51 P32/D2 (io), 52 P33/D3 (io), 53 P34/D4 (io), 54 P35/D5 (io), 55 P36/D6 (io), 56 P37/D7 (io), 57 P40/~{IRQ2}/~{ADTRG} (io), 58 P41/~{IRQ1} (io), 59 P42/~{IRQ0} (io), 60 P43/~{RD} (io), 61 P44/~{WR} (io), 62 P45/~{AS}/~{IOS} (io), 63 P46/Ø/EXCL (io), 64 P47/~{WAIT}/SDA0 (io)
part B pins: 6 VCC2 (power), 8 VSS (power), 13 AVSS (power), 22 AVCC (power), 31 VCC1 (power), 40 VSS (power)

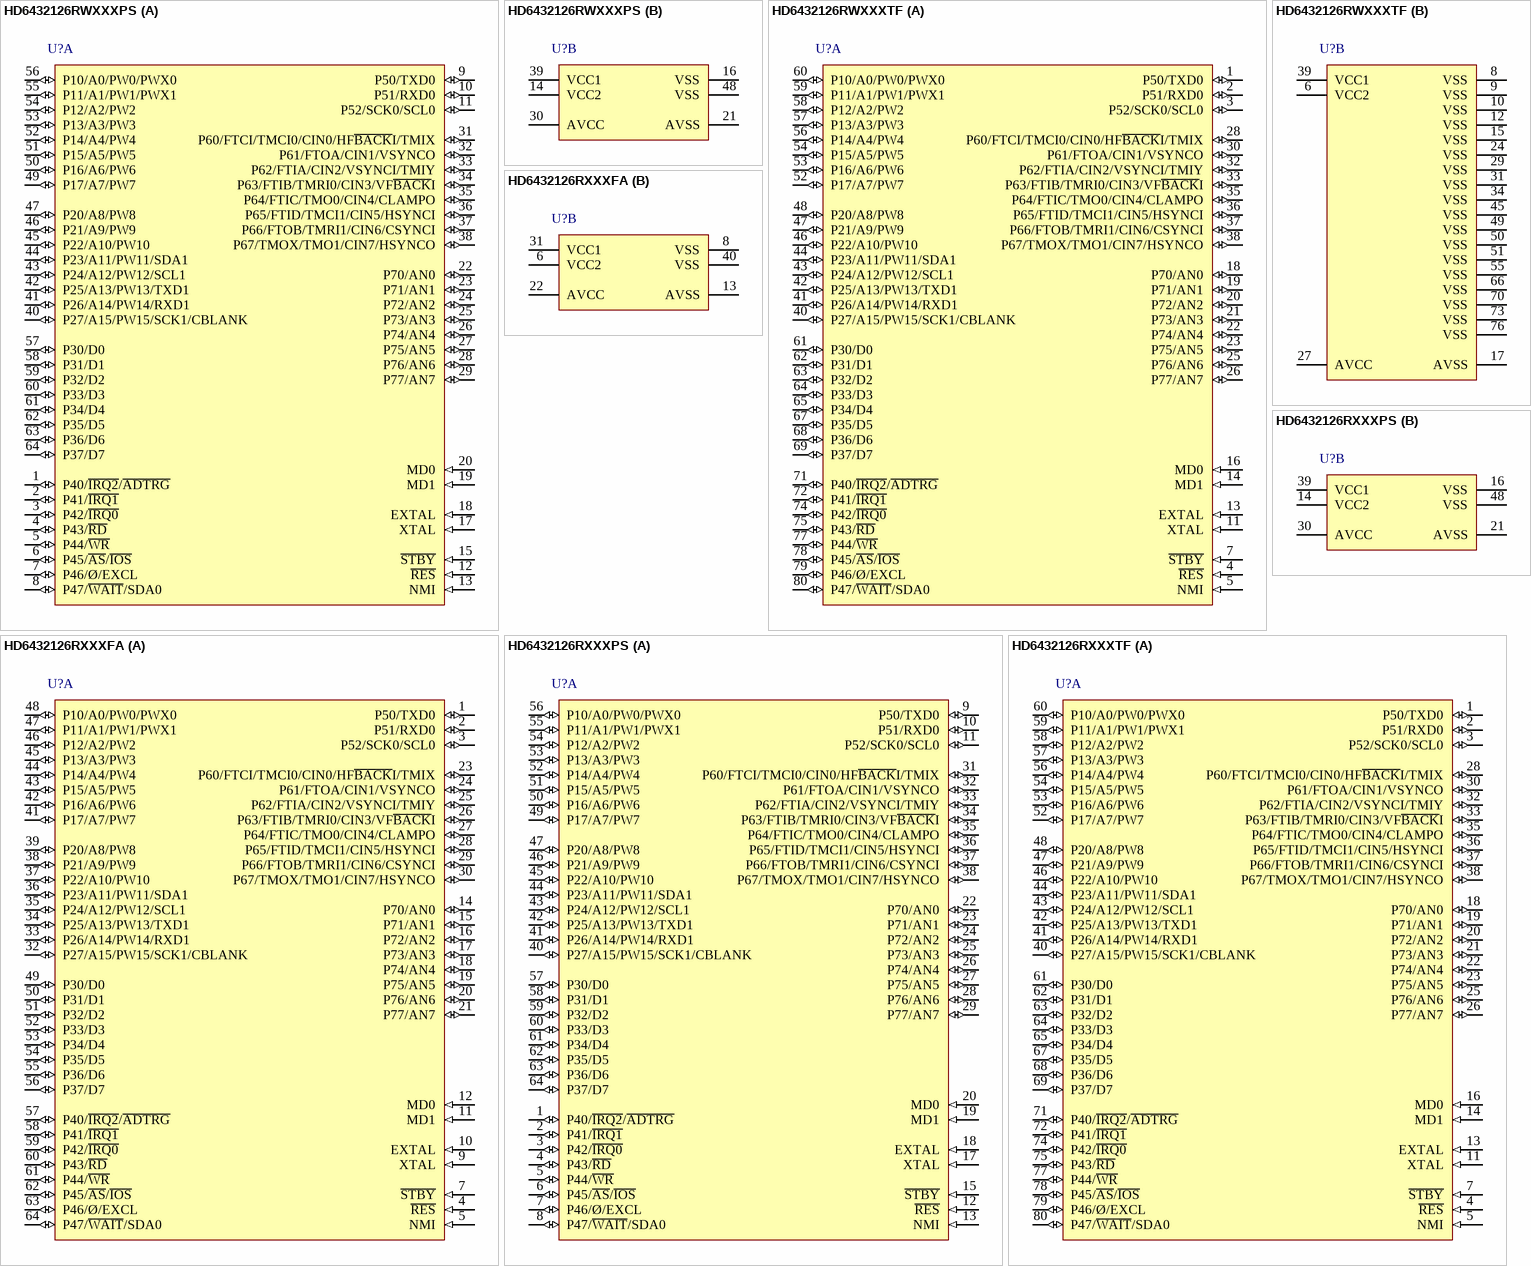
[diagram p103: symbols HD6432126RWXXXPS to HD6432126RXXXTF]

## HD6432126RWXXXPS
designator U?
Mask ROM H8S/2100 Series, 2128 Group MCU, 32K ROM, 2K RAM, DP-64S Pkg; Published: 28-Aug-2009; DatasheetVersion: Rev.3.0, Mar-2001; PackageVersion: Sep-2005; PackageReference: PRDP0064BB-A; Publisher: Altium Limited; PackageDescription: 64-Pin Plastic Shrink DIP, 57.6 x 17 mm Body, 19.05 mm Row Spacing , 1.778 mm Pitch; Code_JEITA: P-SDIP64-17x57.6-1.78; ComponentLink1Description: Manufacturer Link; ComponentLink1URL: http://sg.renesas.com/fmwk.jsp?cnt=h8s_family_landing.jsp&fp=/products/mpumcu/h8s_family/; ComponentLink2Description: Datasheet; ComponentLink2URL: http://documentation.renesas.com/eng/products/mpumcu/e602114_h8s2128.pdf; ComponentLink3Description: Packaging Specification; ComponentLink3URL: http://sg.renesas.com/media/products/common_info/package/pdf/ic/code/prdp0064bb_a.pdf
footprint PRDP0064BB-A (DIP, 64-Leads, Row Spacing 19.05mm, Pitch 1.778mm, Body 58.19x17.05mm)
part A pins: 1 P40/~{IRQ2}/~{ADTRG} (io), 2 P41/~{IRQ1} (io), 3 P42/~{IRQ0} (io), 4 P43/~{RD} (io), 5 P44/~{WR} (io), 6 P45/~{AS}/~{IOS} (io), 7 P46/Ø/EXCL (io), 8 P47/~{WAIT}/SDA0 (io), 9 P50/TXD0 (io), 10 P51/RXD0 (io), 11 P52/SCK0/SCL0 (io), 12 ~{RES} (in), 13 NMI (in), 15 ~{STBY} (in), 17 XTAL (in), 18 EXTAL (in), 19 MD1 (in), 20 MD0 (in), 22 P70/AN0 (io), 23 P71/AN1 (io), 24 P72/AN2 (io), 25 P73/AN3 (io), 26 P74/AN4 (io), 27 P75/AN5 (io), 28 P76/AN6 (io), 29 P77/AN7 (io), 31 P60/FTCI/TMCI0/CIN0/HF~{BACK}I/TMIX (io), 32 P61/FTOA/CIN1/VSYNCO (io), 33 P62/FTIA/CIN2/VSYNCI/TMIY (io), 34 P63/FTIB/TMRI0/CIN3/VF~{BACK}I (io), 35 P64/FTIC/TMO0/CIN4/CLAMPO (io), 36 P65/FTID/TMCI1/CIN5/HSYNCI (io), 37 P66/FTOB/TMRI1/CIN6/CSYNCI (io), 38 P67/TMOX/TMO1/CIN7/HSYNCO (io), 40 P27/A15/PW15/SCK1/CBLANK (io), 41 P26/A14/PW14/RXD1 (io), 42 P25/A13/PW13/TXD1 (io), 43 P24/A12/PW12/SCL1 (io), 44 P23/A11/PW11/SDA1 (io), 45 P22/A10/PW10 (io), 46 P21/A9/PW9 (io), 47 P20/A8/PW8 (io), 49 P17/A7/PW7 (io), 50 P16/A6/PW6 (io), 51 P15/A5/PW5 (io), 52 P14/A4/PW4 (io), 53 P13/A3/PW3 (io), 54 P12/A2/PW2 (io), 55 P11/A1/PW1/PWX1 (io), 56 P10/A0/PW0/PWX0 (io), 57 P30/D0 (io), 58 P31/D1 (io), 59 P32/D2 (io), 60 P33/D3 (io), 61 P34/D4 (io), 62 P35/D5 (io), 63 P36/D6 (io), 64 P37/D7 (io)
part B pins: 14 VCC2 (power), 16 VSS (power), 21 AVSS (power), 30 AVCC (power), 39 VCC1 (power), 48 VSS (power)